# Altium schematic symbol library OpenRex_V1I1.SCHLIB: 164 symbols (part 2 of 5)
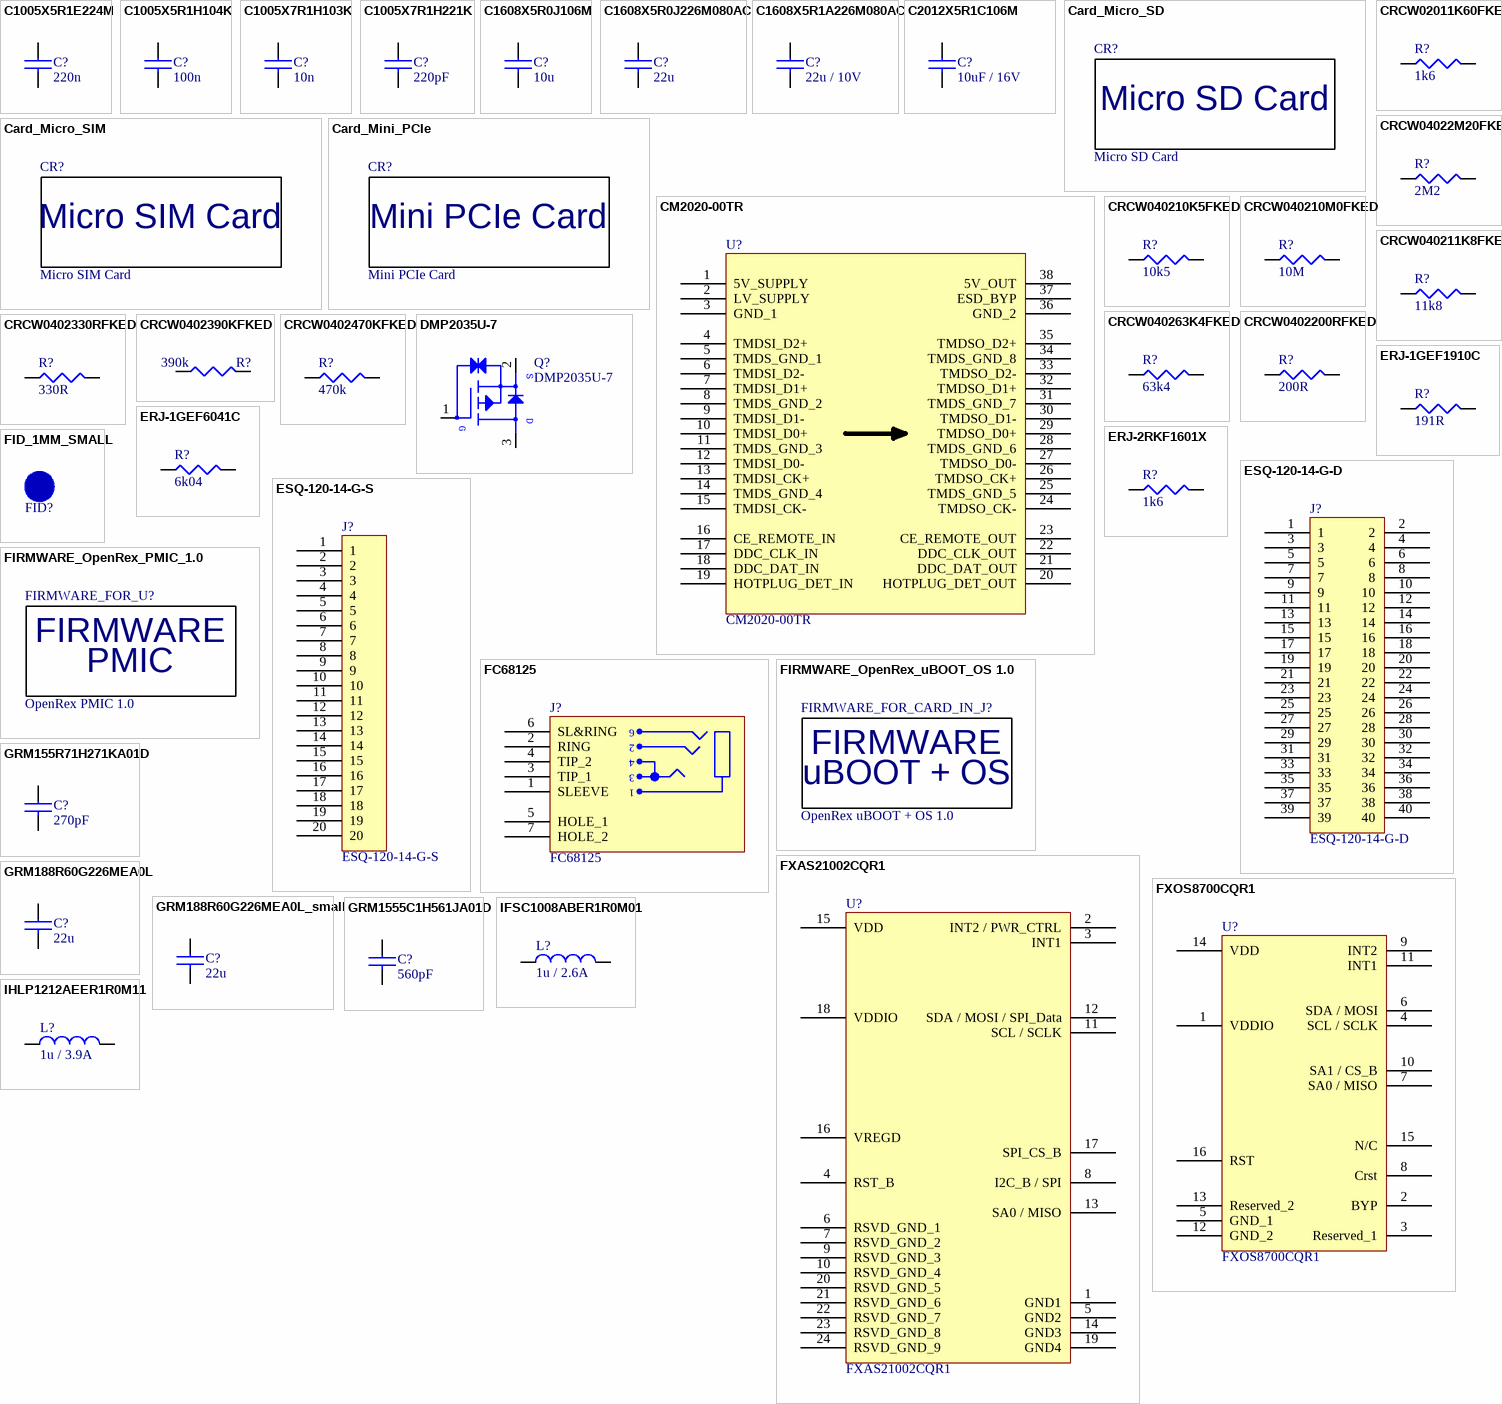
[diagram p17: symbols C1005X5R1E224M to IHLP1212AEER1R0M11]

## C1608X5R1A226M080AC
designator C?, comment 22u / 10V
CAP CER 22UF 10V X5R 0603; Manufacturer: TDK Corporation; Manufacturer Part Number: C1608X5R1A226M080AC; Capacitance: 22µF; Tolerance: ±20%; .Creator: MM; Supplier 1: Digi-Key; RoHS: RoHS Compliant; Category: Capacitors; Stock 1: 405620; Pricing 1: 1=0.49, 10=0.469, 100=0.2275, 250=0.189, 500=0.1715, 1000=0.1575 (USD); Packaging: Cut Tape (CT); Voltage - Rated: 10V; Temperature Coefficient: X5R; Mounting Type: Surface Mount, MLCC; Operating Temperature: -55°C ~ 85°C; Applications: General Purpose; Ratings: -; Package / Case: 0603 (1608 Metric); Size / Dimension: 0.063" L x 0.031" W (1.60mm x 0.80mm); Height - Seated (Max): -; Thickness (Max): 0.035" (0.90mm); Lead Spacing: -; Features: -; Lead Style: -; ComponentLink1URL: http://product.tdk.com/en/catalog/datasheets/mlcc_commercial_general_en.pdf; ComponentLink1Description: http://product.tdk.com/en/catalog/datasheets/mlcc_commercial_general_en.pdf; Supplier Part Number 1: 445-9077-1-ND; .Checked SCH: MM; .Checked PCB: MM
footprint C0603
pins: 1, 2

## C2012X5R1C106M
designator C?, comment 10uF / 16V
CAP CER 10UF 16V 20% X5R 0805; Manufacturer: TDK Corporation; Manufacturer Part Number: C2012X5R1C106M/1.25; Capacitance: 10µF; .Checked PCB: used; Supplier 1: Digi-Key; Supplier Part Number 1: 445-4115-1-ND; RoHS: RoHS Compliant; Category: Capacitors; Stock 1: 66161; Pricing 1: 1=0.45, 10=0.357, 100=0.215, 250=0.16124, 500=0.1376, 1000=0.1075 (USD); Voltage - Rated: 16V; Tolerance: ±20%; Temperature Coefficient: X5R; Mounting Type: Surface Mount, MLCC; Operating Temperature: -55°C ~ 85°C; Applications: General Purpose; Ratings: -; Package / Case: 0805 (2012 Metric); Size / Dimension: 0.079" L x 0.049" W (2.00mm x 1.25mm); Height - Seated (Max): -; Thickness (Max): 0.039" (1.00mm); Lead Spacing: -; Features: -; Packaging: Cut Tape (CT); Lead Style: -; ComponentLink1URL: http://www.tdk.com/pdf/general_B11.pdf; ComponentLink1Description: http://www.tdk.com/pdf/general_B11.pdf; .Checked SCH: used
footprint C0805
pins: 1, 2

## Card_Micro_SD
designator CR?, comment Micro SD Card  (no BOM)
Card Micro SD; .Creator: MM; Category: Card
footprint Micro_SD_card (.Creator MM)

## Card_Micro_SIM
designator CR?, comment Micro SIM Card  (no BOM)
Card Micro SIM; .Creator: MM; Category: Card
footprint Micro_Sim_card (Creator MM)

## Card_Mini_PCIe
designator CR?, comment Mini PCIe Card  (no BOM)
Card MIni PCIe; .Creator: MM; Category: Card
footprint Mini_PCIe_full card (.Creator MM)

## CM2020-00TR
designator U?
IC HDMI TX PORT P/I 38-TSSOP; Manufacturer: ON Semiconductor; .Creator: MM; .Checked PCB: used; Supplier 1: Digi-Key; Manufacturer Part Number: CM2020-00TR; RoHS: RoHS Compliant; Category: Integrated Circuits (ICs); Stock 1: 7580; Pricing 1: 1=1.52, 10=1.34, 25=1.2096, 100=1.0584, 250=0.9282, 500=0.8232, 1000=0.651 (USD); Packaging: Cut Tape (CT); Type: HDMI Transmitter; Applications: Consumer Electronics, DVD-RW Players, Set Top Box; Mounting Type: Surface Mount; Package / Case: 38-TFSOP (0.173", 4.40mm Width) Exposed Pad; Supplier Device Package: 38-TSSOP; ComponentLink1URL: http://www.onsemi.com/pub_link/Collateral/CM2020-00TR-D.PDF; ComponentLink1Description: http://www.onsemi.com/pub_link/Collateral/CM2020-00TR-D.PDF; Supplier Part Number 1: CM2020-00TROSCT-ND; .Checked SCH: used
footprint TSSOP_38
pins: 1 5V_SUPPLY, 2 LV_SUPPLY, 3 GND_1, 4 TMDSI_D2+, 5 TMDS_GND_1, 6 TMDSI_D2-, 7 TMDSI_D1+, 8 TMDS_GND_2, 9 TMDSI_D1-, 10 TMDSI_D0+, 11 TMDS_GND_3, 12 TMDSI_D0-, 13 TMDSI_CK+, 14 TMDS_GND_4, 15 TMDSI_CK-, 16 CE_REMOTE_IN, 17 DDC_CLK_IN, 18 DDC_DAT_IN, 19 HOTPLUG_DET_IN, 20 HOTPLUG_DET_OUT, 21 DDC_DAT_OUT, 22 DDC_CLK_OUT, 23 CE_REMOTE_OUT, 24 TMDSO_CK-, 25 TMDS_GND_5, 26 TMDSO_CK+, 27 TMDSO_D0-, 28 TMDS_GND_6, 29 TMDSO_D0+, 30 TMDSO_D1-, 31 TMDS_GND_7, 32 TMDSO_D1+, 33 TMDSO_D2-, 34 TMDS_GND_8, 35 TMDSO_D2+, 36 GND_2, 37 ESD_BYP, 38 5V_OUT

## CRCW02011K60FKED
designator R?, comment 1k6
RES 1.60K OHM 1/20W 1% 0201 SMD; Manufacturer: Vishay Dale; Manufacturer Part Number: CRCW02011K60FKED; Resistance (Ohms): 1.6k; Power (Watts): 0.05W, 1/20W; Temperature Coefficient: ±100ppm/°C; .Creator: MM; Supplier 1: Digi-Key; RoHS: RoHS Compliant; Category: Resistors; Stock 1: 31501; Pricing 1: 1=0.26, 10=0.218, 25=0.1584, 50=0.1148, 100=0.0851, 250=0.06536, 500=0.05148, 1000=0.03564, 2500=0.03267 (USD); Packaging: Cut Tape (CT); Tolerance: ±1%; Composition: Thick Film; Features: -; Package / Case: 0201 (0603 Metric); Supplier Device Package: 0201 (0603 Metric); Size / Dimension: 0.024" L x 0.012" W (0.60mm x 0.30mm); Height: 0.011" (0.28mm); Number of Terminations: 2; ComponentLink1URL: http://www.vishay.com/docs/20052/crcw0201e3.pdf; ComponentLink1Description: http://www.vishay.com/docs/20052/crcw0201e3.pdf; Supplier Part Number 1: 541-1.60KAABCT-ND; .Checked PCB: MM; .Checked SCH: MM
footprint R0201 (Creator MM)
pins: 1, 2

## CRCW04022M20FKED
designator R?, comment 2M2
RES 2.20M OHM 1/16W 1% 0402 SMD; Manufacturer: Vishay Dale; Manufacturer Part Number: CRCW04022M20FKED; Resistance (Ohms): 2.2M; Power (Watts): 0.063W, 1/16W; Temperature Coefficient: ±100ppm/°C; .Creator: MM; .Checked PCB: used; Supplier 1: Digi-Key; RoHS: RoHS Compliant; Category: Resistors; Stock 1: 77953; Pricing 1: 10=0.083, 50=0.0444, 200=0.0255, 1000=0.0174 (USD); Composition: Thick Film; Features: Automotive AEC-Q200 Qualified; Tolerance: ±1%; Package / Case: 0402 (1005 Metric); Supplier Device Package: 0402 (1005 Metric); Size / Dimension: 0.039" L x 0.020" W (1.00mm x 0.50mm); Height: 0.016" (0.40mm); Number of Terminations: 2; Packaging: Cut Tape (CT); ComponentLink1URL: http://www.vishay.com/doc?20035; ComponentLink1Description: http://www.vishay.com/doc?20035; Supplier Part Number 1: 541-2.20MLCT-ND; .Checked SCH: used
footprint R0402
pins: 1, 2

## CRCW040210K5FKED
designator R?, comment 10k5
RES 10.5K OHM 1/16W 1% 0402 SMD; Manufacturer: Vishay/Dale; Manufacturer Part Number: CRCW040210K5FKED; Power (Watts): 0.063W, 1/16W; .Checked PCB: used; Temperature Coefficient: ±100ppm/°C; Category: Resistors; Supplier Part Number: 541-10.5KLCT-ND; Package / Case: 0402 (1005 Metric); Price 1k [$]: 0.01740; Resistance (Ohms): 10.5K; Tolerance: ±1%; Value: 10k5; .Checked SCH: used; Supplier: Digikey; Supplier 1: Digi-Key; Supplier Part Number 1: 541-10.5KLCT-ND; RoHS: RoHS Compliant; Stock 1: 36157; Pricing 1: 10=0.083, 50=0.0444, 200=0.0255, 1000=0.0174 (USD); Composition: Thick Film; Features: -; Size / Dimension: 0.039" L x 0.020" W (1.00mm x 0.50mm); Height: 0.016" (0.40mm); Number of Terminations: 2; Packaging: Cut Tape (CT); ComponentLink1URL: http://www.vishay.com/doc?20035; ComponentLink1Description: http://www.vishay.com/doc?20035
footprint R0402
pins: 1, 2

## CRCW040210M0FKED
designator R?, comment 10M
RES 10.0M OHM 1/16W 1% 0402 SMD; Manufacturer: Vishay Dale; Manufacturer Part Number: CRCW040210M0FKED; Power (Watts): 0.063W, 1/16W; Temperature Coefficient: ±100ppm/°C; .Checked PCB: RF; Supplier 1: Digi-Key; Supplier Part Number 1: 541-10.0MLCT-ND; RoHS: RoHS Compliant; Category: Resistors; Stock 1: 182279; Pricing 1: 10=0.083, 50=0.0444, 200=0.0255, 1000=0.0174 (USD); Resistance (Ohms): 10M; Composition: Thick Film; Features: -; Tolerance: ±1%; Package / Case: 0402 (1005 Metric); Size / Dimension: 0.039" L x 0.020" W (1.00mm x 0.50mm); Height: 0.016" (0.40mm); Number of Terminations: 2; Packaging: Cut Tape (CT); ComponentLink1URL: http://www.vishay.com/doc?20035; ComponentLink1Description: http://www.vishay.com/doc?20035; .Checked SCH: RF
footprint R0402
pins: 1, 2

## CRCW040211K8FKED
designator R?, comment 11k8
RES 11.8K OHM 1/16W 1% 0402 SMD; Manufacturer: Vishay Dale; Manufacturer Part Number: CRCW040211K8FKED; Power (Watts): 0.063W, 1/16W; Temperature Coefficient: ±100ppm/°C; .Checked PCB: RF; Supplier 1: Digi-Key; Supplier Part Number 1: 541-11.8KLCT-ND; RoHS: RoHS Compliant; Category: Resistors; Stock 1: 30358; Pricing 1: 10=0.083, 50=0.0444, 200=0.0255, 1000=0.0174 (USD); Resistance (Ohms): 11.8K; Composition: Thick Film; Features: -; Tolerance: ±1%; Package / Case: 0402 (1005 Metric); Size / Dimension: 0.039" L x 0.020" W (1.00mm x 0.50mm); Height: 0.016" (0.40mm); Number of Terminations: 2; Packaging: Cut Tape (CT); ComponentLink1URL: http://www.vishay.com/doc?20035; ComponentLink1Description: http://www.vishay.com/doc?20035; .Checked SCH: RF
footprint R0402
pins: 1, 2

## CRCW040263K4FKED
designator R?, comment 63k4
RES SMD 63.4K OHM 1% 1/16W 0402; Manufacturer: Vishay Dale; Manufacturer Part Number: CRCW040263K4FKED; Power (Watts): 0.063W, 1/16W; Temperature Coefficient: ±100ppm/°C; .Checked PCB: MM; Supplier 1: Digi-Key; RoHS: RoHS Compliant; Category: Resistors; Stock 1: 43534; Pricing 1: 10=0.083, 50=0.0444, 200=0.0255, 1000=0.0174 (USD); Packaging: Cut Tape (CT); Resistance (Ohms): 63.4k; Tolerance: ±1%; Composition: Thick Film; Features: Automotive AEC-Q200; Operating Temperature: -55°C ~ 155°C; Package / Case: 0402 (1005 Metric); Supplier Device Package: 0402 (1005 Metric); Size / Dimension: 0.039" L x 0.020" W (1.00mm x 0.50mm); Height: 0.016" (0.40mm); Number of Terminations: 2; ComponentLink1URL: http://www.vishay.com/docs/20035/dcrcwe3.pdf; ComponentLink1Description: http://www.vishay.com/docs/20035/dcrcwe3.pdf; Supplier Part Number 1: 541-63.4KLCT-ND; .Checked SCH: MM; .Creator: MM
footprint R0402
pins: 1, 2

## CRCW0402200RFKED
designator R?, comment 200R
RES 200 OHM 1/16W 1% 0402 SMD; Manufacturer: Vishay Dale; Manufacturer Part Number: CRCW0402200RFKED; Resistance (Ohms): 200; Power (Watts): 0.063W, 1/16W; Temperature Coefficient: ±100ppm/°C; .Checked PCB: used; .Creator: MM; Supplier 1: Digi-Key; RoHS: RoHS Compliant; Category: Resistors; Stock 1: 251574; Pricing 1: 10=0.083, 50=0.0444, 200=0.0255, 1000=0.0174 (USD); Composition: Thick Film; Features: Automotive AEC-Q200 Qualified; Tolerance: ±1%; Package / Case: 0402 (1005 Metric); Supplier Device Package: 0402 (1005 Metric); Size / Dimension: 0.039" L x 0.020" W (1.00mm x 0.50mm); Height: 0.016" (0.40mm); Number of Terminations: 2; Packaging: Cut Tape (CT); ComponentLink1URL: http://www.vishay.com/doc?20035; ComponentLink1Description: http://www.vishay.com/doc?20035; Supplier Part Number 1: 541-200LCT-ND; .Checked SCH: used
footprint R0402
pins: 1, 2

## CRCW0402330RFKED
designator R?, comment 330R
RES 330 OHM 1/16W 1% 0402 SMD; Manufacturer: Vishay Dale; Manufacturer Part Number: CRCW0402330RFKED; Resistance (Ohms): 330; Power (Watts): 0.063W, 1/16W; Temperature Coefficient: ±100ppm/°C; .Checked PCB: used; Supplier 1: Digi-Key; Supplier Part Number 1: 541-330LCT-ND; RoHS: RoHS Compliant; Category: Resistors; Stock 1: 49303; Pricing 1: 10=0.083, 50=0.0444, 200=0.0255, 1000=0.0174 (USD); Composition: Thick Film; Features: -; Tolerance: ±1%; Package / Case: 0402 (1005 Metric); Size / Dimension: 0.039" L x 0.020" W (1.00mm x 0.50mm); Height: 0.016" (0.40mm); Number of Terminations: 2; Packaging: Cut Tape (CT); ComponentLink1URL: http://www.vishay.com/doc?20035; ComponentLink1Description: http://www.vishay.com/doc?20035; .Checked SCH: used
footprint R0402
pins: 1, 2

## CRCW0402390KFKED
designator R?, comment 390k
RES 390K OHM 1/16W 1% 0402 SMD; Manufacturer: Vishay Dale; Manufacturer Part Number: CRCW0402390KFKED; Power (Watts): 0.063W, 1/16W; Temperature Coefficient: ±100ppm/°C; .Creator: MM; .Checked SCH: used; Supplier 1: Digi-Key; RoHS: RoHS Compliant; Category: Resistors; Stock 1: 288225; Pricing 1: 10=0.083, 50=0.0444, 200=0.0255, 1000=0.0174 (USD); Packaging: Cut Tape (CT); Resistance (Ohms): 390k; Tolerance: ±1%; Composition: Thick Film; Features: Automotive AEC-Q200 Qualified; Package / Case: 0402 (1005 Metric); Supplier Device Package: 0402 (1005 Metric); Size / Dimension: 0.039" L x 0.020" W (1.00mm x 0.50mm); Height: 0.016" (0.40mm); Number of Terminations: 2; ComponentLink1URL: http://www.vishay.com/docs/20035/dcrcwe3.pdf; ComponentLink1Description: http://www.vishay.com/docs/20035/dcrcwe3.pdf; Supplier Part Number 1: 541-390KLCT-ND; .Checked PCB: used
footprint R0402
pins: 1, 2

## CRCW0402470KFKED
designator R?, comment 470k
RES 470K OHM 1/16W 1% 0402 SMD; Manufacturer: Vishay Dale; Manufacturer Part Number: CRCW0402470KFKED; Power (Watts): 0.063W, 1/16W; Temperature Coefficient: ±100ppm/°C; .Checked PCB: MM; Supplier 1: Digi-Key; Supplier Part Number 1: 541-470KLCT-ND; RoHS: RoHS Compliant; Category: Resistors; Stock 1: 9270; Pricing 1: 10=0.083, 50=0.0444, 200=0.0255, 1000=0.0174 (USD); Resistance (Ohms): 470K; Composition: Thick Film; Features: -; Tolerance: ±1%; Size / Dimension: 0.039" L x 0.020" W (1.00mm x 0.50mm); Height: 0.016" (0.40mm); Number of Terminations: 2; Packaging: Cut Tape (CT); Package / Case: 0402 (1005 Metric); ComponentLink1URL: http://www.vishay.com/doc?20035; ComponentLink1Description: http://www.vishay.com/doc?20035; .Checked SCH: MM
footprint R0402
pins: 1, 2

## DMP2035U-7
designator Q?
MOSFET P-CH 20V 3.6A SOT-23; Manufacturer: Diodes Incorporated; FET Type: MOSFET P-Channel, Metal Oxide; FET Feature: Logic Level Gate; Current - Continuous Drain (Id) @ 25°C: 3.6A (Ta); Rds On (Max) @ Id, Vgs: 35 mOhm @ 4A, 4.5V; Vgs(th) (Max) @ Id: 1V @ 250µA; Gate Charge (Qg) @ Vgs: 15.4nC @ 4.5V; Input Capacitance (Ciss) @ Vds: 1610pF @ 10V; Power - Max: 810mW; .Checked PCB: MM; Supplier 1: Digi-Key; Manufacturer Part Number: DMP2035U-7; RoHS: RoHS Compliant; Category: Discrete Semiconductor Products; Stock 1: 71721; Pricing 1: 1=0.49, 10=0.345, 25=0.2836, 100=0.2265, 250=0.165, 500=0.134, 1000=0.103 (USD); Packaging: Cut Tape (CT); Drain to Source Voltage (Vdss): 20V; Mounting Type: Surface Mount; Package / Case: TO-236-3, SC-59, SOT-23-3; Supplier Device Package: SOT-23-3; ComponentLink1URL: http://www.diodes.com/datasheets/ds31830.pdf; ComponentLink1Description: http://www.diodes.com/datasheets/ds31830.pdf; Supplier Part Number 1: DMP2035U-7DICT-ND; .Checked SCH: MM; .Creator: MM
footprint SOT-23-3-123
pins: 1, 2, 3
text: S; D; G

## ERJ-1GEF1910C
designator R?, comment 191R
RES 191 OHM 1/20W 1% 0201 SMD; Manufacturer: Panasonic Electronic Components; Manufacturer Part Number: ERJ-1GEF1910C; Resistance (Ohms): 191; Power (Watts): 0.05W, 1/20W; Temperature Coefficient: ±200ppm/°C; .Creator: MM; Supplier 1: Digi-Key; RoHS: RoHS Compliant; Category: Resistors; Stock 1: 34157; Pricing 1: 1=0.11, 50=0.0414, 100=0.0315, 250=0.0234, 500=0.01728, 1000=0.01152, 5000=0.0081 (USD); Packaging: Cut Tape (CT); Tolerance: ±1%; Composition: Thick Film; Features: -; Package / Case: 0201 (0603 Metric); Supplier Device Package: 0201; Size / Dimension: 0.024" L x 0.012" W (0.60mm x 0.30mm); Height: 0.010" (0.26mm); Number of Terminations: 2; ComponentLink1URL: http://media.digikey.com/pdf/Data%20Sheets/Panasonic%20Resistors%20Thermistors%20PDFs/ERJ_G,R,E_Rev08.pdf; ComponentLink1Description: http://media.digikey.com/pdf/Data%20Sheets/Panasonic%20Resistors%20Thermistors%20PDFs/ERJ_G,R,E_Rev08.pdf; Supplier Part Number 1: P191ABCT-ND; .Checked PCB: MM; .Checked SCH: MM
footprint R0201 (Creator MM)
pins: 1, 2

## ERJ-1GEF6041C
designator R?, comment 6k04
RES 6.04K OHM 1/20W 1% 0201 SMD; Manufacturer: Panasonic Electronic Components; Manufacturer Part Number: ERJ-1GEF6041C; Power (Watts): 0.05W, 1/20W; Temperature Coefficient: ±200ppm/°C; .Creator: MM; Supplier 1: Digi-Key; RoHS: RoHS Compliant; Category: Resistors; Stock 1: 78155; Pricing 1: 1=0.11, 50=0.0414, 100=0.0315, 250=0.0234, 500=0.01728, 1000=0.01152, 5000=0.0081 (USD); Packaging: Cut Tape (CT); Resistance (Ohms): 6.04k; Tolerance: ±1%; Composition: Thick Film; Features: -; Package / Case: 0201 (0603 Metric); Supplier Device Package: 0201; Size / Dimension: 0.024" L x 0.012" W (0.60mm x 0.30mm); Height: 0.010" (0.26mm); Number of Terminations: 2; ComponentLink1URL: http://media.digikey.com/pdf/Data%20Sheets/Panasonic%20Resistors%20Thermistors%20PDFs/ERJ_G,R,E_Rev08.pdf; ComponentLink1Description: http://media.digikey.com/pdf/Data%20Sheets/Panasonic%20Resistors%20Thermistors%20PDFs/ERJ_G,R,E_Rev08.pdf; Supplier Part Number 1: P6.04KABCT-ND; .Checked PCB: MM; .Checked SCH: MM
footprint R0201 (Creator MM)
pins: 1, 2

## ERJ-2RKF1601X
designator R?, comment 1k6
RES 1.6K OHM 1/10W 1% 0402 SMD; Manufacturer: Panasonic Electronic Components; Manufacturer Part Number: ERJ-2RKF1601X; Power (Watts): 0.1W, 1/10W; Temperature Coefficient: ±100ppm/°C; .Creator: MM; .Checked PCB: used; Supplier 1: Digi-Key; RoHS: RoHS Compliant; Category: Resistors; Stock 1: 89488; Pricing 1: 1=0.1, 50=0.0242, 100=0.0184, 250=0.01364, 500=0.01008, 1000=0.00672, 5000=0.00473 (USD); Resistance (Ohms): 1.6k; Composition: Thick Film; Features: -; Tolerance: ±1%; Package / Case: 0402 (1005 Metric); Supplier Device Package: 0402; Size / Dimension: 0.039" L x 0.020" W (1.00mm x 0.50mm); Height: 0.016" (0.40mm); Number of Terminations: 2; Packaging: Cut Tape (CT); ComponentLink1URL: http://industrial.panasonic.com/www-cgi/jvcr13pz.cgi?E+PZ+3+AOA0002+ERJ2RKF1601X+7+WW; ComponentLink1Description: http://industrial.panasonic.com/www-cgi/jvcr13pz.cgi?E+PZ+3+AOA0002+ERJ2RKF1601X+7+WW; Supplier Part Number 1: P1.60KLCT-ND; .Checked SCH: used
footprint R0402
pins: 1, 2

## ESQ-120-14-G-D
designator J?
CONN RCPT 40POS .100" DUAL GOLD; Manufacturer: Samtec Inc.; Connector Type: Receptacle; Number of Positions: 40; Number of Positions Loaded: All; Pitch: 0.100" (2.54mm); .Creator: MM; Supplier 1: Digi-Key; Manufacturer Part Number: ESQ-120-14-G-D; RoHS: RoHS Compliant; Category: Connectors, Interconnects; Stock 1: 51; Pricing 1: 1=7.42, 10=6.864, 50=6.1586, 100=5.7505, 250=5.00852, 500=4.823, 1000=4.6375, 2500=4.452 (USD); Packaging: Tube; Contact Type: Female Socket; Number of Rows: 2; Row Spacing: 0.100" (2.54mm); Mounting Type: Through Hole; Termination: Solder; Fastening Type: -; Features: -; Contact Finish: Gold; Contact Finish Thickness: 20µin (0.51µm); Color: Black; ComponentLink1URL: http://suddendocs.samtec.com/prints/esq-1xx-xx-x-x-xxx-xx-x-xx-mkt.pdf; ComponentLink1Description: http://suddendocs.samtec.com/prints/esq-1xx-xx-x-x-xxx-xx-x-xx-mkt.pdf; Supplier Part Number 1: SAM8767-ND; .Checked PCB: MM; .Checked SCH: MM
footprint ESQ-120-14-G-D (Creator MM)
pins: 1, 2, 3, 4, 5, 6, 7, 8, 9, 10, 11, 12, 13, 14, 15, 16, 17, 18, 19, 20, 21, 22, 23, 24, 25, 26, 27, 28, 29, 30, 31, 32, 33, 34, 35, 36, 37, 38, 39, 40

## ESQ-120-14-G-S
designator J?
CONN RCPT 20POS .100" DUAL GOLD; Manufacturer: Samtec Inc.; Connector Type: Receptacle; Number of Positions: 20; Number of Positions Loaded: All; Pitch: 0.100" (2.54mm); .Creator: MM; .Checked PCB: MM, paper model not checked; Supplier 1: Digi-Key; Manufacturer Part Number: ESQ-120-14-G-S; RoHS: RoHS Compliant; Category: Connectors, Interconnects; Stock 1: 0; Pricing 1: 1=5.67 (USD); Packaging: Tube; Contact Type: Female Socket; Number of Rows: 1; Row Spacing: -; Mounting Type: Through Hole; Termination: Solder; Fastening Type: -; Features: -; Contact Finish: Gold; Contact Finish Thickness: 20µin (0.51µm); Color: Black; ComponentLink1URL: http://suddendocs.samtec.com/prints/esq-1xx-xx-x-x-xxx-xx-x-xx-mkt.pdf; ComponentLink1Description: http://suddendocs.samtec.com/prints/esq-1xx-xx-x-x-xxx-xx-x-xx-mkt.pdf; Supplier Part Number 1: ESQ-120-14-G-S-ND; .Checked SCH: MM
footprint ESQ-120-14-G-S (Creator MM)
pins: 1, 2, 3, 4, 5, 6, 7, 8, 9, 10, 11, 12, 13, 14, 15, 16, 17, 18, 19, 20

## FC68125
designator J?
CLIFF ELECTRONIC COMPONENTS - FC68125 - CONNECTOR, PHONO, 3.5MM, JACK, 4POLE; .Creator: MM; Supplier 1: Farnell; Manufacturer: CLIFF ELECTRONIC COMPONENTS; Manufacturer Part Number: FC68125; RoHS: YES; Stock 1: 5095; Pricing 1: 1=1.18, 10=0.652, 25=0.505, 50=0.433, 100=0.371, 500=0.316 (GBP); ComponentLink1URL: http://www.farnell.com/cad/1803251.pdf; ComponentLink1Description: http://www.farnell.com/cad/1803251.pdf; ComponentLink2URL: http://www.farnell.com/datasheets/1759063.pdf; ComponentLink2Description: http://www.farnell.com/datasheets/1759063.pdf; Supplier Part Number 1: 2309468; Category: Connectors, Interconnects; .Checked PCB: MM; .Checked SCH: MM
footprint FC68125
pins: 1 SLEEVE, 2 RING, 3 TIP_1, 4 TIP_2, 5 HOLE_1, 6 SL&RING, 7 HOLE_2

## FID_1MM_SMALL
designator FID?  (value not drawn)  (no BOM)
Fiducial 40mil Diameter, 52mil Mask; Supplier: Digikey
footprint FID_40X52D

## FIRMWARE_OpenRex_PMIC_1.0
designator FIRMWARE_FOR_U?, comment OpenRex PMIC 1.0  (mechanical)
.Creator: MM; Category: Firmware; .Checked SCH: MM
text: FIRMWARE; PMIC

## FIRMWARE_OpenRex_uBOOT_OS 1.0
designator FIRMWARE_FOR_CARD_IN_J?, comment OpenRex uBOOT + OS 1.0  (mechanical)
.Creator: MM; Category: Firmware; .Checked SCH: MM
text: FIRMWARE; uBOOT + OS

## FXAS21002CQR1
designator U?
GYROSCOPE 3-AXIS 24QFN; Manufacturer: Freescale Semiconductor; Range °/s: ±250°/s, ±500°/s, ±1000°/s, ±2000°/s; Sensitivity: 0.0078°/s/LSB, 0.0156°/s/LSB, 0.0312°/s/LSB, 0.0625°/s/LSB; Typical Bandwidth: 400Hz; Voltage - Supply: 1.95 V ~ 3.6 V; Current - Supply: 2.7mA; Output Type: I²C, SPI; .Checked PCB: MM; Supplier 1: Digi-Key; Manufacturer Part Number: FXAS21002CQR1; RoHS: RoHS Compliant; Category: Sensors, Transducers; Stock 1: 1703; Pricing 1: 1=3.56, 10=3.175, 25=2.9844, 100=2.8575, 250=2.73052, 500=2.54 (USD); Operating Temperature: -40°C ~ 85°C; Package / Case: 24-TFQFN Exposed Pad; Supplier Device Package: 24-QFN (4x4); ComponentLink1URL: http://cache.freescale.com/files/sensors/doc/data_sheet/FXAS21002.pdf; ComponentLink1Description: http://cache.freescale.com/files/sensors/doc/data_sheet/FXAS21002.pdf; Supplier Part Number 1: FXAS21002CQR1CT-ND; .Checked SCH: MM; .Creator: MM
footprint QFN24_4x4MM (Creator MM)
pins: 1 GND1, 2 INT2 / PWR_CTRL, 3 INT1, 4 RST_B, 5 GND2, 6 RSVD_GND_1, 7 RSVD_GND_2, 8 I2C_B / SPI, 9 RSVD_GND_3, 10 RSVD_GND_4, 11 SCL / SCLK, 12 SDA / MOSI / SPI_Data, 13 SA0 / MISO, 14 GND3, 15 VDD, 16 VREGD, 17 SPI_CS_B, 18 VDDIO, 19 GND4, 20 RSVD_GND_5, 21 RSVD_GND_6, 22 RSVD_GND_7, 23 RSVD_GND_8, 24 RSVD_GND_9

## FXOS8700CQR1
designator U?
SENSOR XTRINSIC 6-AXIS QFN; Manufacturer: Freescale Semiconductor; Sensor Type: Accelerometer, Magnetometer, 3 Axis; Output Type: I²C, SPI; .Checked PCB: MM; Supplier 1: Digi-Key; Manufacturer Part Number: FXOS8700CQR1; RoHS: RoHS Compliant; Category: Sensors, Transducers; Stock 1: 6201; Pricing 1: 1=2.63, 10=2.35, 25=2.2092, 100=2.115, 250=2.021, 500=1.88 (USD); ComponentLink1URL: http://cache.freescale.com/files/sensors/doc/data_sheet/FXOS8700CQ.pdf; ComponentLink1Description: http://cache.freescale.com/files/sensors/doc/data_sheet/FXOS8700CQ.pdf; Supplier Part Number 1: FXOS8700CQR1CT-ND; .Checked SCH: MM; .Creator: MM
footprint QFN16_3x3mm (Creator MM)
pins: 1 VDDIO, 2 BYP, 3 Reserved_1, 4 SCL / SCLK, 5 GND_1, 6 SDA / MOSI, 7 SA0 / MISO, 8 Crst, 9 INT2, 10 SA1 / CS_B, 11 INT1, 12 GND_2, 13 Reserved_2, 14 VDD, 15 N/C, 16 RST

## GRM155R71H271KA01D
designator C?, comment 270pF
CAP CER 270PF 50V 10% X7R 0402; Manufacturer: Murata Electronics North America; Manufacturer Part Number: GRM155R71H271KA01D; .Checked PCB: used; Supplier 1: Digi-Key; Supplier Part Number 1: 490-1299-1-ND; RoHS: RoHS Compliant; Category: Capacitors; Stock 1: 83894; Pricing 1: 10=0.032, 50=0.0252, 100=0.0189, 250=0.01364, 500=0.01008, 1000=0.00683, 5000=0.00525 (USD); Capacitance: 270pF; Voltage - Rated: 50V; Tolerance: ±10%; Temperature Coefficient: X7R; Mounting Type: Surface Mount, MLCC; Operating Temperature: -55°C ~ 125°C; Applications: General Purpose; Ratings: -; Package / Case: 0402 (1005 Metric); Size / Dimension: 0.039" L x 0.020" W (1.00mm x 0.50mm); Height - Seated (Max): -; Thickness (Max): 0.022" (0.55mm); Lead Spacing: -; Features: -; Packaging: Cut Tape (CT); Lead Style: -; ComponentLink1URL: http://search.murata.co.jp/Ceramy/image/img/PDF/ENG/GRM155R71H271KA01.pdf; ComponentLink1Description: http://search.murata.co.jp/Ceramy/image/img/PDF/ENG/GRM155R71H271KA01.pdf; .Checked SCH: used
footprint C0402
pins: 1, 2

## GRM188R60G226MEA0L
designator C?, comment 22u
CAP CER 22UF 4V 20% X5R 0603; Manufacturer: Murata Electronics North America; Manufacturer Part Number: GRM188R60G226MEA0L; Capacitance: 22µF; .Checked PCB: used; .Creator: MM; Supplier 1: Digi-Key; Supplier Part Number 1: 490-5526-1-ND; RoHS: RoHS Compliant; Category: Capacitors; Stock 1: 5760; Pricing 1: 1=0.79, 10=0.663, 50=0.4752, 100=0.4158, 250=0.32672, 500=0.297, 1000=0.2376 (USD); Voltage - Rated: 4V; Tolerance: ±20%; Temperature Coefficient: X5R; Mounting Type: Surface Mount, MLCC; Operating Temperature: -55°C ~ 85°C; Applications: General Purpose; Ratings: -; Package / Case: 0603 (1608 Metric); Size / Dimension: 0.063" L x 0.031" W (1.60mm x 0.80mm); Height - Seated (Max): -; Thickness (Max): 0.035" (0.90mm); Lead Spacing: -; Features: -; Packaging: Cut Tape (CT); Lead Style: -; ComponentLink1URL: http://www.murata.com/products/catalog/pdf/c02e.pdf; ComponentLink1Description: http://www.murata.com/products/catalog/pdf/c02e.pdf; .Checked SCH: used
footprint C0603
pins: 1, 2

## GRM188R60G226MEA0L_small
designator C?, comment 22u
CAP CER 22UF 4V 20% X5R 0603; Manufacturer: Murata Electronics North America; Manufacturer Part Number: GRM188R60G226MEA0L; Capacitance: 22µF; .Checked PCB: MM; .Checked SCH: RF, used by MM; Supplier 1: Digi-Key; Supplier Part Number 1: 490-5526-1-ND; RoHS: RoHS Compliant; Category: Capacitors; Stock 1: 5760; Pricing 1: 1=0.79, 10=0.663, 50=0.4752, 100=0.4158, 250=0.32672, 500=0.297, 1000=0.2376 (USD); Voltage - Rated: 4V; Tolerance: ±20%; Temperature Coefficient: X5R; Mounting Type: Surface Mount, MLCC; Operating Temperature: -55°C ~ 85°C; Applications: General Purpose; Ratings: -; Package / Case: 0603 (1608 Metric); Size / Dimension: 0.063" L x 0.031" W (1.60mm x 0.80mm); Height - Seated (Max): -; Thickness (Max): 0.035" (0.90mm); Lead Spacing: -; Features: -; Packaging: Cut Tape (CT); Lead Style: -; ComponentLink1URL: http://www.murata.com/products/catalog/pdf/c02e.pdf; ComponentLink1Description: http://www.murata.com/products/catalog/pdf/c02e.pdf; .Creator: MM
footprint C0603_small (Creator MM)
pins: 1, 2

## GRM1555C1H561JA01D
designator C?, comment 560pF
CAP CER 560PF 50V C0G 0402; Manufacturer: Murata Electronics North America; Manufacturer Part Number: GRM1555C1H561JA01D; .Checked PCB: used; Tolerance: ±5%; Temperature Coefficient: C0G, NP0; Capacitance: 560pF; Category: Capacitors; Supplier Part Number: 490-3238-1-ND; Operating Temperature: -55°C ~ 125°C; Package / Case: 0402 (1005 Metric); Price 1k [$]: 0.0149; Value: 560pF; .Checked SCH: used; Voltage - Rated: 50V; Supplier: Digikey; Supplier 1: Digi-Key; Supplier Part Number 1: 490-3238-1-ND; RoHS: RoHS Compliant; Stock 1: 301161; Pricing 1: 10=0.066, 50=0.0528, 100=0.0396, 250=0.0286, 500=0.02112, 1000=0.0143, 5000=0.011 (USD); Mounting Type: Surface Mount, MLCC; Applications: General Purpose; Ratings: -; Size / Dimension: 0.039" L x 0.020" W (1.00mm x 0.50mm); Height - Seated (Max): -; Thickness (Max): 0.022" (0.55mm); Lead Spacing: -; Features: -; Packaging: Cut Tape (CT); Lead Style: -; ComponentLink1URL: http://search.murata.co.jp/Ceramy/image/img/PDF/ENG/GRM1555C1H561JA01.pdf; ComponentLink1Description: http://search.murata.co.jp/Ceramy/image/img/PDF/ENG/GRM1555C1H561JA01.pdf
footprint C0402
pins: 1, 2

## IFSC1008ABER1R0M01
designator L?, comment 1u / 2.6A
FIXED IND 1UH 2.6A 43 MOHM SMD; Manufacturer: Vishay Dale; Manufacturer Part Number: IFSC1008ABER1R0M01; Inductance: 1µH; Tolerance: ±20%; Current - Saturation: 2.7A; Shielding: Shielded; DC Resistance (DCR): 43 mOhm Max; Frequency - Test: 100kHz; .Creator: MM; Supplier 1: Digi-Key; RoHS: RoHS Compliant; Category: Inductors, Coils, Chokes; Stock 1: 46148; Pricing 1: 1=0.62, 10=0.501, 100=0.4175, 500=0.334, 1000=0.3006 (USD); Packaging: Cut Tape (CT); Type: -; Material - Core: -; Current Rating: 2.6A; Q @ Freq: -; Frequency - Self Resonant: -; Operating Temperature: -55°C ~ 125°C; Mounting Type: Surface Mount; Package / Case: Nonstandard; Size / Dimension: 0.098" L x 0.079" W (2.50mm x 2.00mm); Height - Seated (Max): 0.047" (1.20mm); Supplier Device Package: -; ComponentLink1URL: http://www.vishay.com/docs/34294/s108ab01.pdf; ComponentLink1Description: http://www.vishay.com/docs/34294/s108ab01.pdf; Supplier Part Number 1: 541-1388-1-ND; .Checked PCB: MM; .Checked SCH: MM
footprint IFSC_79MILX98MIL (Creator MM)
pins: 1, 2

## IHLP1212AEER1R0M11
designator L?, comment 1u / 3.9A
FIXED IND 1UH 3.9A 33 MOHM SMD; Manufacturer: Vishay Dale; Manufacturer Part Number: IHLP1212AEER1R0M11; Type: Molded; Inductance: 1µH; Tolerance: ±20%; Current - Saturation: 5.3A; Shielding: Shielded; DC Resistance (DCR): 33 mOhm Max; Frequency - Test: 100kHz; .Creator: MM; Supplier 1: Digi-Key; RoHS: RoHS Compliant; Category: Inductors, Coils, Chokes; Stock 1: 3480; Pricing 1: 1=1.44, 10=1.35, 100=1.026, 500=0.828, 1000=0.756 (USD); Packaging: Cut Tape (CT); Material - Core: -; Current Rating: 3.9A; Q @ Freq: -; Frequency - Self Resonant: -; Operating Temperature: -55°C ~ 125°C; Mounting Type: Surface Mount; Package / Case: Nonstandard; Size / Dimension: 0.144" L x 0.118" W (3.65mm x 3.00mm); Height - Seated (Max): 0.047" (1.20mm); Supplier Device Package: -; ComponentLink1URL: http://www.vishay.com/docs/34300/lp12ae11.pdf; ComponentLink1Description: http://www.vishay.com/docs/34300/lp12ae11.pdf; Supplier Part Number 1: 541-1327-1-ND; .Checked PCB: MM; .Checked SCH: MM
footprint IHLP_118MILX144MIL (Creator MM)
pins: 1, 2

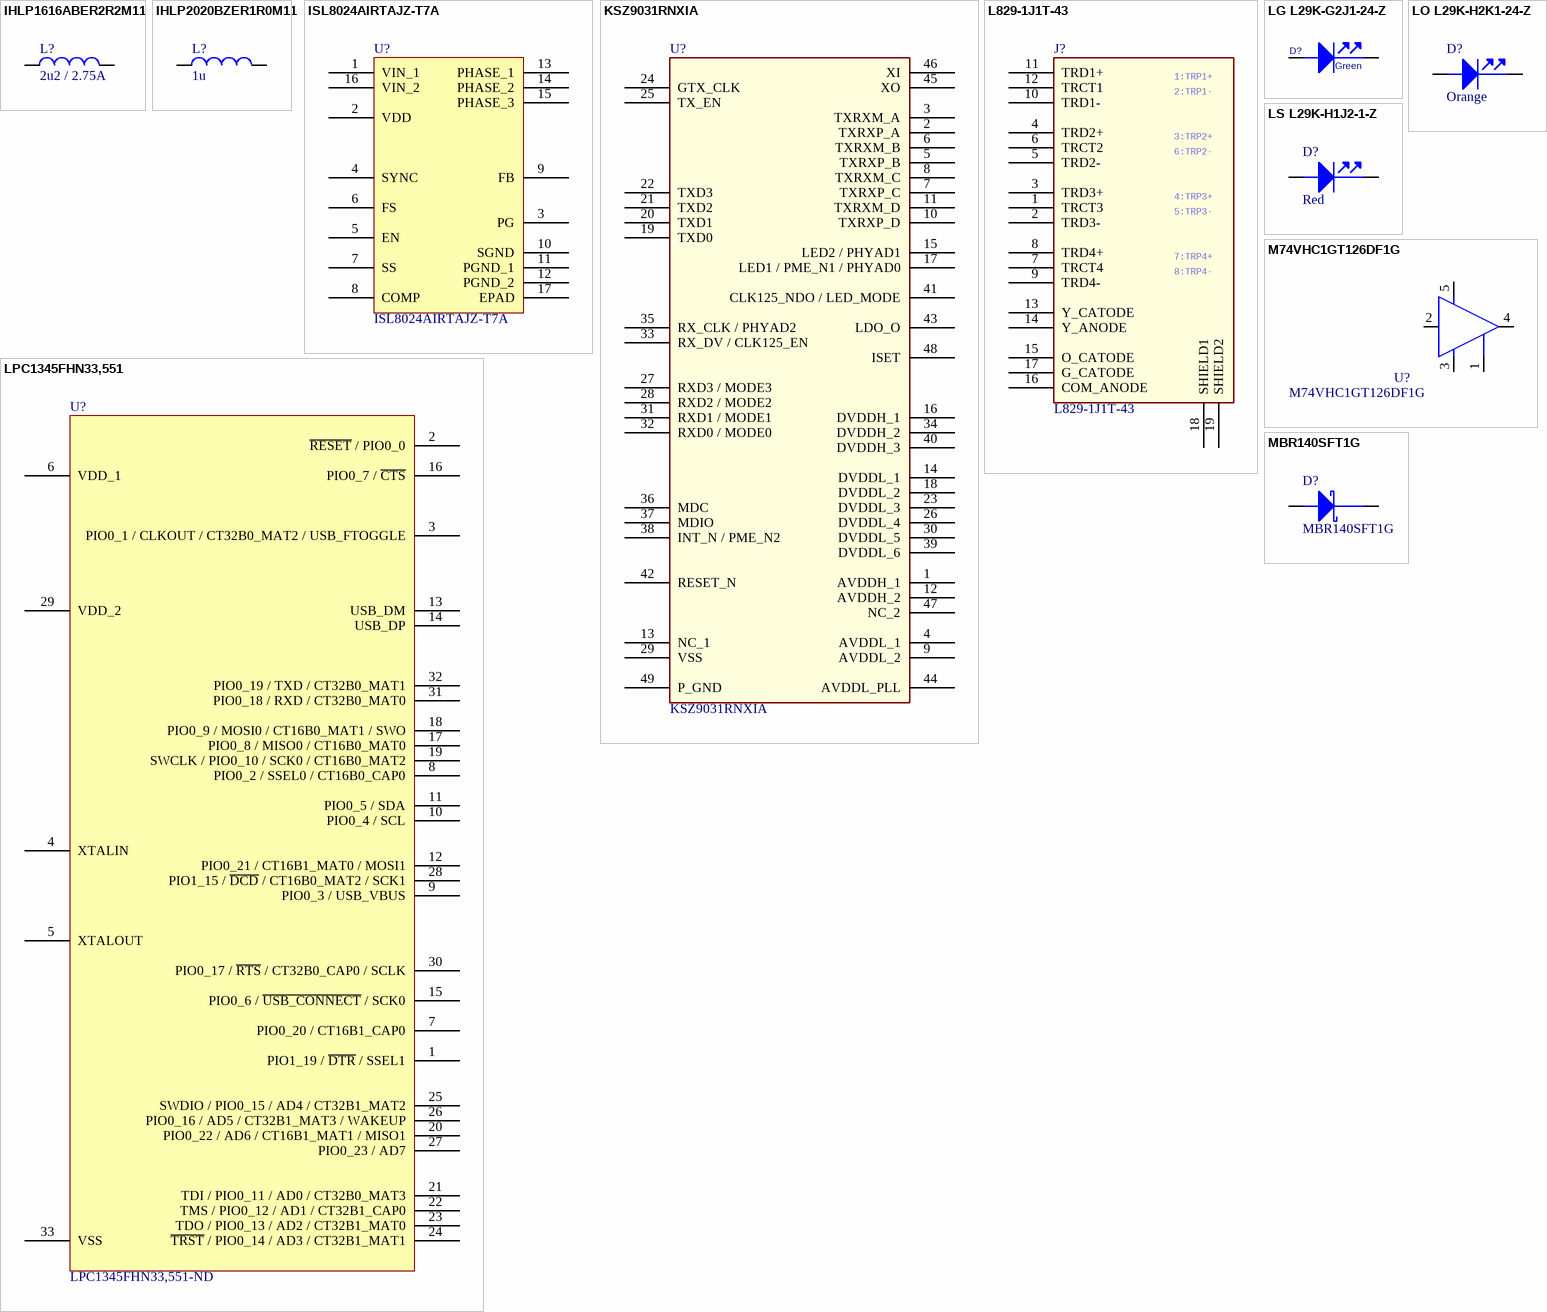
[diagram p2: symbols IHLP1616ABER2R2M11 to MBR140SFT1G]

## IHLP1616ABER2R2M11
designator L?, comment 2u2 / 2.75A
FIXED IND 2.2UH 2.75A 83.5 MOHM; Manufacturer: Vishay Dale; Manufacturer Part Number: IHLP1616ABER2R2M11; Type: Molded; Inductance: 2.2µH; Tolerance: ±20%; Current - Saturation: 3A; Shielding: Shielded; DC Resistance (DCR): 83.5 mOhm Max; Frequency - Self Resonant: 49MHz; Frequency - Test: 100kHz; .Creator: MM; Supplier 1: Digi-Key; RoHS: RoHS Compliant; Category: Inductors, Coils, Chokes; Stock 1: 11070; Pricing 1: 1=2.63, 10=2.45, 100=1.82, 500=1.54, 1000=1.435 (USD); Packaging: Cut Tape (CT); Material - Core: -; Current Rating: 2.75A; Q @ Freq: -; Operating Temperature: -55°C ~ 125°C; Mounting Type: Surface Mount; Package / Case: Nonstandard; Size / Dimension: 0.175" L x 0.160" W (4.45mm x 4.06mm); Height - Seated (Max): 0.047" (1.20mm); Supplier Device Package: -; ComponentLink1URL: http://media.digikey.com/pdf/Data%20Sheets/Vishay%20Dale%20PDFs/IHLP-1616-11.pdf; ComponentLink1Description: http://media.digikey.com/pdf/Data%20Sheets/Vishay%20Dale%20PDFs/IHLP-1616-11.pdf; Supplier Part Number 1: 541-1045-1-ND; .Checked PCB: MM; .Checked SCH: MM
footprint IHLP_160MILX175MIL (Creator MM)
pins: 1, 2

## IHLP2020BZER1R0M11
designator L?, comment 1u
INDUCTOR POWER 1.0UH 7.5A SMD; Manufacturer: Vishay Dale; Manufacturer Part Number: IHLP2020BZER1R0M11; Type: Molded; Inductance: 1µH; Tolerance: ±20%; Current - Saturation: 7A; Shielding: Shielded; DC Resistance (DCR): 18.1 mOhm Max; Frequency - Self Resonant: 66MHz; Frequency - Test: 100kHz; .Checked PCB: MM; Supplier 1: Digi-Key; RoHS: RoHS Compliant; Category: Inductors, Coils, Chokes; Stock 1: 8442; Pricing 1: 1=2.4, 10=2.24, 100=1.664, 500=1.408, 1000=1.312 (USD); Packaging: Cut Tape (CT); Material - Core: -; Current Rating: 7.5A; Q @ Freq: -; Operating Temperature: -55°C ~ 125°C; Mounting Type: Surface Mount; Package / Case: Non Standard; Size / Dimension: 0.216" L x 0.204" W (5.49mm x 5.18mm); Height - Seated (Max): 0.079" (2.00mm); Supplier Device Package: -; ComponentLink1URL: http://www.vishay.com/docs/34261/lp20bz11.pdf; ComponentLink1Description: http://www.vishay.com/docs/34261/lp20bz11.pdf; Supplier Part Number 1: 541-1218-1-ND; .Checked SCH: MM; .Creator: MM
footprint IHLP_204MILX216MIL (Creator MM)
pins: 1, 2

## ISL8024AIRTAJZ-T7A
designator U?
IC REG BUCK SYNC ADJ 4A 16TQFN; Manufacturer: Intersil; Output Type: Adjustable; Number of Outputs: 1; Voltage - Output: 0.6 V ~ 5.5 V; Voltage - Input: 2.7 V ~ 5.5 V; Frequency - Switching: 490kHz ~ 4.2MHz; Synchronous Rectifier: Yes; .Creator: MM; Supplier 1: Digi-Key; Manufacturer Part Number: ISL8024AIRTAJZ-T7A; RoHS: RoHS Compliant; Category: Integrated Circuits (ICs); Stock 1: 440; Pricing 1: 1=4.61, 25=3.63, 100=3.08 (USD); Packaging: Cut Tape (CT); Type: Step-Down (Buck); Current - Output: 4A; Operating Temperature: -40°C ~ 85°C; Mounting Type: Surface Mount; Package / Case: 16-WFQFN Exposed Pad; Supplier Device Package: 16-TQFN (3x3); ComponentLink1URL: http://www.intersil.com/content/dam/Intersil/documents/fn78/fn7812.pdf; ComponentLink1Description: http://www.intersil.com/content/dam/Intersil/documents/fn78/fn7812.pdf; Supplier Part Number 1: ISL8024AIRTAJZ-T7ACT-ND; .Checked PCB: MM; .Checked SCH: MM
footprint 16-TQFN_3mmx3mm_V1.1 (Shortend length of pads.)
pins: 1 VIN_1, 2 VDD, 3 PG, 4 SYNC, 5 EN, 6 FS, 7 SS, 8 COMP, 9 FB, 10 SGND, 11 PGND_1, 12 PGND_2, 13 PHASE_1, 14 PHASE_2, 15 PHASE_3, 16 VIN_2, 17 EPAD

## KSZ9031RNXIA
designator U?
IC TXRX ETHERNET 48-QFN; Manufacturer: Micrel Inc; Number of Drivers/Receivers: 4/4; Duplex: Full; Voltage - Supply: 1.8V, 2.5V, 3.3V; .Creator: MM; Supplier 1: Digi-Key; Manufacturer Part Number: KSZ9031RNXIA; RoHS: RoHS Compliant; Category: Integrated Circuits (ICs); Stock 1: 1755; Pricing 1: 1=6.69, 10=5.975, 50=5.3776, 100=4.8995, 250=4.42152, 500=3.9674, 1000=3.346, 2500=3.1787, 5000=3.04725 (USD); Packaging: Tray; Type: Transceiver; Protocol: Ethernet; Receiver Hysteresis: -; Data Rate: -; Operating Temperature: -40°C ~ 85°C; Mounting Type: Surface Mount; Package / Case: 48-VFQFN Exposed Pad; Supplier Device Package: 48-QFN (7x7); ComponentLink1URL: http://www.micrel.com/_PDF/Ethernet/datasheets/KSZ9031RNX.pdf; ComponentLink1Description: http://www.micrel.com/_PDF/Ethernet/datasheets/KSZ9031RNX.pdf; Supplier Part Number 1: 576-4346-ND; .Checked PCB: MM; .Checked SCH: MM
footprint QFN48_SMALL_EP_7MMX7MM (Creator MM)
pins: 1 AVDDH_1, 2 TXRXP_A, 3 TXRXM_A, 4 AVDDL_1, 5 TXRXP_B, 6 TXRXM_B, 7 TXRXP_C, 8 TXRXM_C, 9 AVDDL_2, 10 TXRXP_D, 11 TXRXM_D, 12 AVDDH_2, 13 NC_1, 14 DVDDL_1, 15 LED2 / PHYAD1, 16 DVDDH_1, 17 LED1 / PME_N1 / PHYAD0, 18 DVDDL_2, 19 TXD0, 20 TXD1, 21 TXD2, 22 TXD3, 23 DVDDL_3, 24 GTX_CLK, 25 TX_EN, 26 DVDDL_4, 27 RXD3 / MODE3, 28 RXD2 / MODE2, 29 VSS, 30 DVDDL_5, 31 RXD1 / MODE1, 32 RXD0 / MODE0, 33 RX_DV / CLK125_EN, 34 DVDDH_2, 35 RX_CLK / PHYAD2, 36 MDC, 37 MDIO, 38 INT_N / PME_N2, 39 DVDDL_6, 40 DVDDH_3, 41 CLK125_NDO / LED_MODE, 42 RESET_N, 43 LDO_O, 44 AVDDL_PLL, 45 XO, 46 XI, 47 NC_2, 48 ISET, 49 P_GND

## L829-1J1T-43
designator J?
CONN MAGJACK 1PORT SHLD 1000BT; Manufacturer: Bel Fuse Inc; Connector Type: RJ45; Number of Ports: 1; Speed: 10/100/1000 Base-T; LED Color: Green, Orange - Yellow; Number of Cores per Jack: 8; Shielding: Shielded; Tab Direction: Up; .Checked PCB: RF; Supplier 1: Digi-Key; Manufacturer Part Number: L829-1J1T-43; RoHS: RoHS Compliant; Category: Connectors, Interconnects; Stock 1: 7172; Pricing 1: 1=4.67, 10=3.863, 100=2.8974, 250=2.672, 500=2.41446, 1000=2.14082, 2500=2.05229, 5000=2.01205 (GBP); Number of Rows: 1; Mounting Type: Panel Mount; Through Hole, Right Angle; Height Above Board: 0.445" (11.30mm); Features: AutoMDIX, Board Guide; Packaging: Tray; ComponentLink1URL: http://www.belfuse.com/Data/Datasheets/L829-1J1T-43.pdf; ComponentLink1Description: http://www.belfuse.com/Data/Datasheets/L829-1J1T-43.pdf; Supplier Part Number 1: 380-1110-ND; .Checked SCH: RF
footprint L829-1J1T-43
pins: 1 TRCT3, 2 TRD3-, 3 TRD3+, 4 TRD2+, 5 TRD2-, 6 TRCT2, 7 TRCT4, 8 TRD4+, 9 TRD4-, 10 TRD1-, 11 TRD1+, 12 TRCT1, 13 Y_CATODE, 14 Y_ANODE, 15 O_CATODE, 16 COM_ANODE, 17 G_CATODE, 18 SHIELD1, 19 SHIELD2
text: 1:TRP1+; 2:TRP1-; 3:TRP2+; 6:TRP2-; 4:TRP3+; 5:TRP3-; 7:TRP4+; 8:TRP4-

## LG L29K-G2J1-24-Z
designator D?, comment Green
LED SMARTLED GREEN 570NM 0603; Manufacturer: OSRAM Opto Semiconductors Inc; Manufacturer Part Number: LG L29K-G2J1-24-Z; .Checked PCB: used; Current - Test: 2mA; Voltage - Forward (Vf) Typ: 1.7V; Luminous Flux @ Current - Test: 12 mlm; Millicandela Rating: 3.92mcd; Wavelength - Peak: 572nm; Lens Type: Diffused; Lens Style/Size: Rectangle with Flat Top, 1.3mm x 0.8mm; Viewing Angle: 160°; Regulator Topology: Positive Fixed; Voltage - Output: 2.5V; Voltage - Input: 2.6 V ~ 6 V; Voltage - Dropout (Typical): 0.16V @ 500mA; Number of Regulators: 1; Current - Output: 500mA; Current - Limit (Min): 600mA; .Checked SCH: used; Category: Optoelectronics; Supplier Part Number: 475-2709-1-ND; Family: LEDs - <75mA, Discre; Price 1k [$]: 0.08744; Value: Green; Color: Green; Package / Case: 0603 (1608 Metric); Supplier: Digikey; Supplier 1: Digi-Key; Supplier Part Number 1: 475-2709-1-ND; RoHS: RoHS Compliant; Stock 1: 30318; Pricing 1: 1=0.16, 10=0.137, 100=0.1093, 250=0.09564, 500=0.08744 (USD); Wavelength - Dominant: 570nm; Size / Dimension: 1.70mm L x 0.80mm W; Height: 0.65mm; Mounting Type: Surface Mount; Packaging: Cut Tape (CT); ComponentLink1URL: http://catalog.osram-os.com/catalogue/catalogue.do;jsessionid=32CB61882C089EDD4B6D0A54E7E1F117?act=downloadFile&favOid=020000020000138e000100b6; ComponentLink1Description: http://catalog.osram-os.com/catalogue/catalogue.do;jsessionid=32CB61882C089EDD4B6D0A54E7E1F117?act=downloadFile&favOid=020000020000138e000100b6; Operating Temperature: -40°C ~ 125°C; Supplier Device Package: 6-TMLF® (1.6x1.6); ComponentLink2URL: http://www.micrel.com/_PDF/mic5353.pdf; ComponentLink2Description: http://www.micrel.com/_PDF/mic5353.pdf
footprint LED_0603
pins: 1 cathode, 2 ANODE

## LO L29K-H2K1-24-Z
designator D?, comment Orange
LED SMARTLED ORANGE 606NM 0603; Manufacturer: OSRAM Opto Semiconductors Inc; Manufacturer Part Number: LO L29K-H2K1-24-Z; Millicandela Rating: 6.3mcd; Voltage - Forward (Vf) Typ: 1.8V; Current - Test: 2mA; Wavelength - Peak: 610nm; Viewing Angle: 160°; Lens Type: Diffused; Lens Style/Size: Rectangle with Flat Top, 1.3mm x 0.8mm; Luminous Flux @ Current - Test: 25 mlm; .Checked PCB: used; Supplier 1: Digi-Key; Supplier Part Number 1: 475-2740-1-ND; RoHS: RoHS Compliant; Category: Optoelectronics; Stock 1: 15900; Pricing 1: 1=0.17, 10=0.141, 100=0.1127, 250=0.0986, 500=0.09016 (USD); Color: Orange; Wavelength - Dominant: 606nm; Package / Case: 0603 (1608 Metric); Size / Dimension: 1.70mm L x 0.80mm W; Height: 0.65mm; Mounting Type: Surface Mount; Packaging: Cut Tape (CT); ComponentLink1URL: http://catalog.osram-os.com/catalogue/catalogue.do;jsessionid=302CF83AF637AE24E40AEB0ADA267EDD?act=downloadFile&favOid=020000010003f9de000100b6; ComponentLink1Description: http://catalog.osram-os.com/catalogue/catalogue.do;jsessionid=302CF83AF637AE24E40AEB0ADA267EDD?act=downloadFile&favOid=020000010003f9de000100b6; .Checked SCH: used
footprint LED_0603
pins: 1 cathode, 2 ANODE

## LPC1345FHN33,551
designator U?, comment LPC1345FHN33,551-ND
IC MCU ARM 32KB FLASH 32HVQFN; Manufacturer: NXP Semiconductors; Core Processor: ARM® Cortex®-M3; Core Size: 32-Bit; Speed: 72MHz; Connectivity: I²C, Microwire, SPI, SSI, SSP, UART/USART, USB; Peripherals: Brown-out Detect/Reset, POR, WDT; Number of I/O: 26; Program Memory Size: 32KB (32K x 8); EEPROM Size: 2K x 8; RAM Size: 10K x 8; Voltage - Supply (Vcc/Vdd): 2 V ~ 3.6 V; Data Converters: A/D 8x12b; Oscillator Type: Internal; .Checked PCB: MM; Supplier 1: Digi-Key; Manufacturer Part Number: LPC1345FHN33,551; RoHS: RoHS Compliant; Category: Integrated Circuits (ICs); Stock 1: 0; Pricing 1: 260=3.2745 (USD); Packaging: Tray; Program Memory Type: FLASH; Operating Temperature: -40°C ~ 85°C; Package / Case: 32-VQFN Exposed Pad; Supplier Device Package: 32-HVQFN (7x7); ComponentLink1URL: http://www.nxp.com/documents/data_sheet/LPC1315_16_17_45_46_47.pdf; ComponentLink1Description: http://www.nxp.com/documents/data_sheet/LPC1315_16_17_45_46_47.pdf; Supplier Part Number 1: LPC1345FHN33,551-ND; .Checked SCH: MM; .Creator: MM
footprint HVQFN33_7x7mm (Creator MM)
pins: 1 PIO1_19 / ~{DTR} / SSEL1, 2 ~{RESET} / PIO0_0, 3 PIO0_1 / CLKOUT / CT32B0_MAT2 / USB_FTOGGLE, 4 XTALIN, 5 XTALOUT, 6 VDD_1, 7 PIO0_20 / CT16B1_CAP0, 8 PIO0_2 / SSEL0 / CT16B0_CAP0, 9 PIO0_3 / USB_VBUS, 10 PIO0_4 / SCL, 11 PIO0_5 / SDA, 12 PIO0_21 / CT16B1_MAT0 / MOSI1, 13 USB_DM, 14 USB_DP, 15 PIO0_6 / ~{USB_CONNECT} / SCK0, 16 PIO0_7 / ~{CTS}, 17 PIO0_8 / MISO0 / CT16B0_MAT0, 18 PIO0_9 / MOSI0 / CT16B0_MAT1 / SWO, 19 SWCLK / PIO0_10 / SCK0 / CT16B0_MAT2, 20 PIO0_22 / AD6 / CT16B1_MAT1 / MISO1, 21 TDI / PIO0_11 / AD0 / CT32B0_MAT3, 22 TMS / PIO0_12 / AD1 / CT32B1_CAP0, 23 TDO / PIO0_13 / AD2 / CT32B1_MAT0, 24 ~{TRST} / PIO0_14 / AD3 / CT32B1_MAT1, 25 SWDIO / PIO0_15 / AD4 / CT32B1_MAT2, 26 PIO0_16 / AD5 / CT32B1_MAT3 / WAKEUP, 27 PIO0_23 / AD7, 28 PIO1_15 / ~{DCD} / CT16B0_MAT2 / SCK1, 29 VDD_2, 30 PIO0_17 / ~{RTS} / CT32B0_CAP0 / SCLK, 31 PIO0_18 / RXD / CT32B0_MAT0, 32 PIO0_19 / TXD / CT32B0_MAT1, 33 VSS

## LS L29K-H1J2-1-Z
designator D?, comment Red
LED SMARTLED RED 630NM 0603 SMD; Manufacturer: OSRAM Opto Semiconductors Inc; Manufacturer Part Number: LS L29K-H1J2-1-Z; Millicandela Rating: 4.95mcd; Voltage - Forward (Vf) Typ: 1.8V; Current - Test: 2mA; Wavelength - Peak: 643nm; Viewing Angle: 160°; Lens Type: Diffused; Lens Style/Size: Rectangle with Flat Top, 1.3mm x 0.8mm; Luminous Flux @ Current - Test: 20 mlm; .Checked PCB: used; Supplier 1: Digi-Key; Supplier Part Number 1: 475-1195-1-ND; RoHS: RoHS Compliant; Category: Optoelectronics; Stock 1: 71670; Pricing 1: 1=0.16, 10=0.137, 100=0.1093, 250=0.09564, 500=0.08744 (USD); Color: Red; Wavelength - Dominant: 630nm; Package / Case: 0603 (1608 Metric); Size / Dimension: 1.70mm L x 0.80mm W; Height: 0.65mm; Mounting Type: Surface Mount; Packaging: Cut Tape (CT); ComponentLink1URL: http://catalog.osram-os.com/catalogue/catalogue.do;jsessionid=DB7CFDBAC5AF1E216E45F622E867085A?act=downloadFile&favOid=020000010003f9de000100b6; ComponentLink1Description: http://catalog.osram-os.com/catalogue/catalogue.do;jsessionid=DB7CFDBAC5AF1E216E45F622E867085A?act=downloadFile&favOid=020000010003f9de000100b6; .Checked SCH: used
footprint LED_0603
pins: 1 cathode, 2 ANODE

## M74VHC1GT126DF1G
designator U?
IC BUFF CMOS LVL/SFTR N-I SOT353; Manufacturer: ON Semiconductor; Logic Type: Buffer/Line Driver, Non-Inverting; Number of Elements: 1; Current - Output High, Low: 8mA, 8mA; Voltage - Supply: 3 V ~ 5.5 V; .Checked PCB: MM; Supplier 1: Digi-Key; Manufacturer Part Number: M74VHC1GT126DF1G; RoHS: RoHS Compliant; Category: Integrated Circuits (ICs); Stock 1: 6821; Pricing 1: 1=0.36, 10=0.326, 25=0.2344, 100=0.1824, 250=0.1146, 500=0.09766, 1000=0.06654 (USD); Packaging: Cut Tape (CT); Number of Bits per Element: 1; Operating Temperature: -55°C ~ 125°C; Mounting Type: Surface Mount; Package / Case: 5-TSSOP, SC-70-5, SOT-353; Supplier Device Package: SC-70; ComponentLink1URL: http://www.onsemi.com/pub_link/Collateral/MC74VHC1GT126-D.PDF; ComponentLink1Description: http://www.onsemi.com/pub_link/Collateral/MC74VHC1GT126-D.PDF; Supplier Part Number 1: M74VHC1GT126DF1GOSCT-ND; .Checked SCH: MM; .Creator: MM
footprint SC70_5
pins: 1 OE#, 2 I, 3 GND (power), 4 O (hiz), 5 VCC (power)

## MBR140SFT1G
designator D?
DIODE SCHOTTKY 40V 1A SOD123L; Manufacturer: ON Semiconductor; Voltage - Forward (Vf) (Max) @ If: 550mV @ 1A; Speed: Fast Recovery =< 500ns, > 200mA (Io); Current - Reverse Leakage @ Vr: 500µA @ 40V; .Creator: MM; Supplier 1: Digi-Key; Manufacturer Part Number: MBR140SFT1G; RoHS: RoHS Compliant; Category: Discrete Semiconductor Products; Stock 1: 9727; Pricing 1: 1=0.47, 10=0.333, 25=0.274, 100=0.2188, 250=0.1594, 500=0.12944, 1000=0.0995 (USD); Packaging: Cut Tape (CT); Diode Type: Schottky; Voltage - DC Reverse (Vr) (Max): 40V; Current - Average Rectified (Io): 1A; Reverse Recovery Time (trr): -; Capacitance @ Vr, F: -; Mounting Type: Surface Mount; Package / Case: SOD-123F; Supplier Device Package: SOD-123L; Operating Temperature - Junction: -55°C ~ 125°C; ComponentLink1URL: http://www.onsemi.com/pub_link/Collateral/MBR140SFT1-D.PDF; ComponentLink1Description: http://www.onsemi.com/pub_link/Collateral/MBR140SFT1-D.PDF; Supplier Part Number 1: MBR140SFT1GOSCT-ND; .Checked PCB: MM; .Checked SCH: MM
footprint SOD-123FL (Wider inside part of pads. Creator MM)
pins: 1 Cathode, 2 Anode

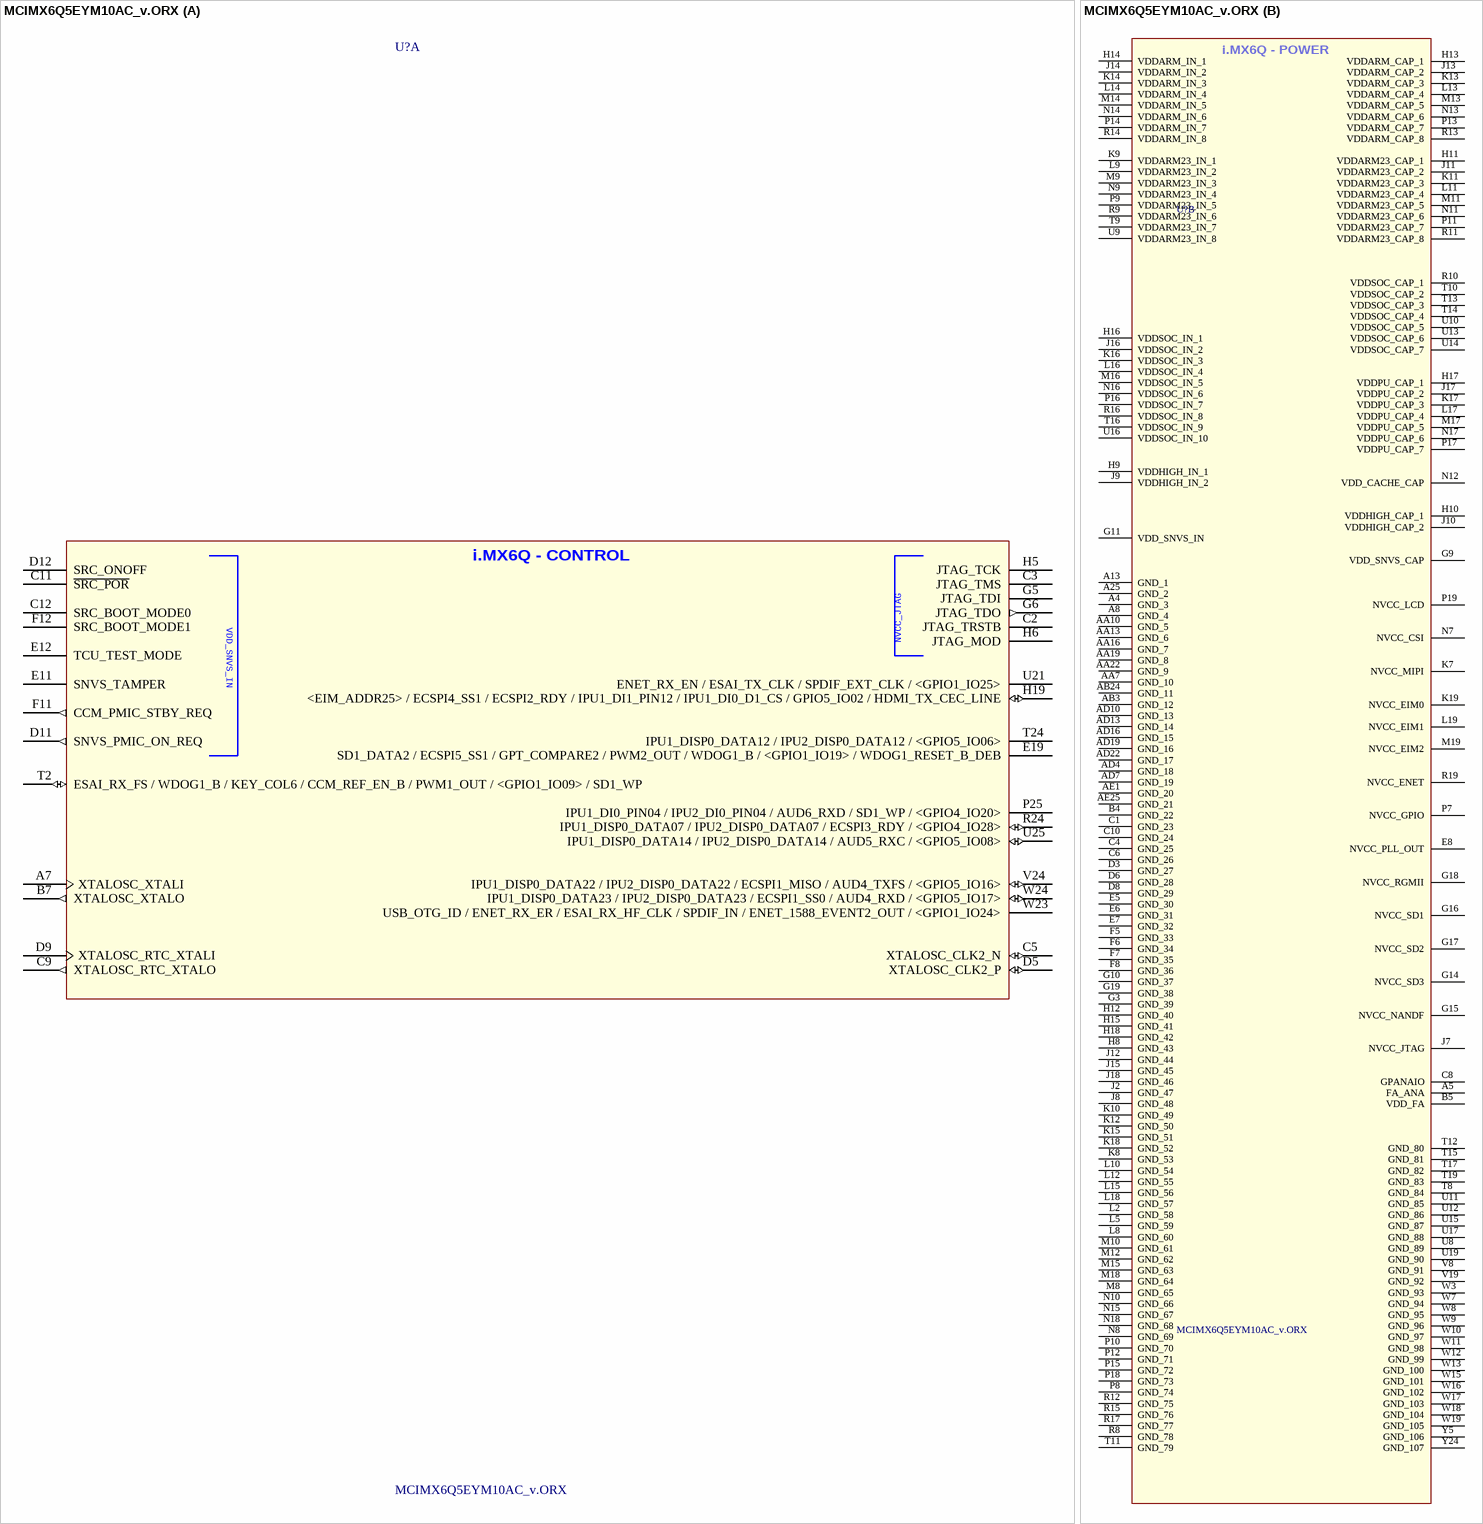
[diagram p3: symbol MCIMX6Q5EYM10AC_v.ORX]

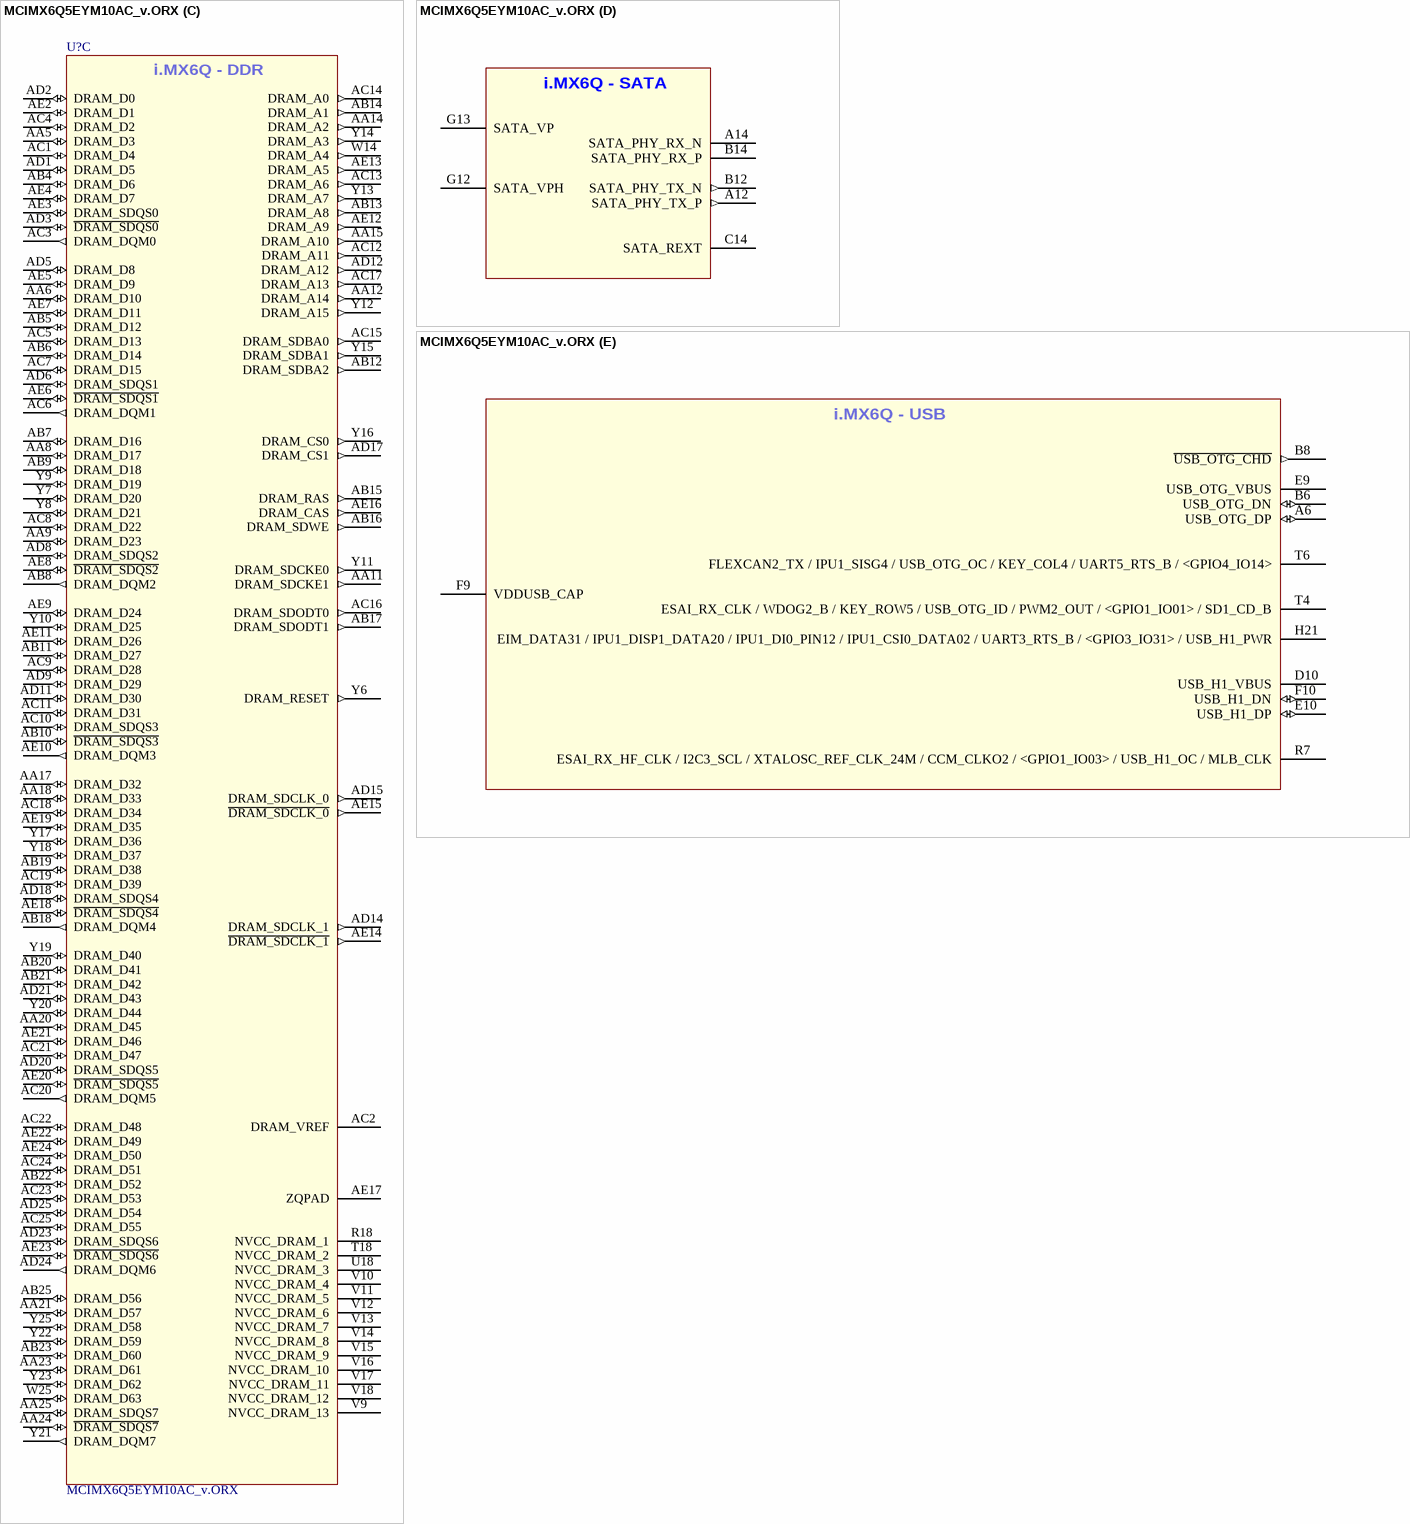
[diagram p4: symbol MCIMX6Q5EYM10AC_v.ORX]

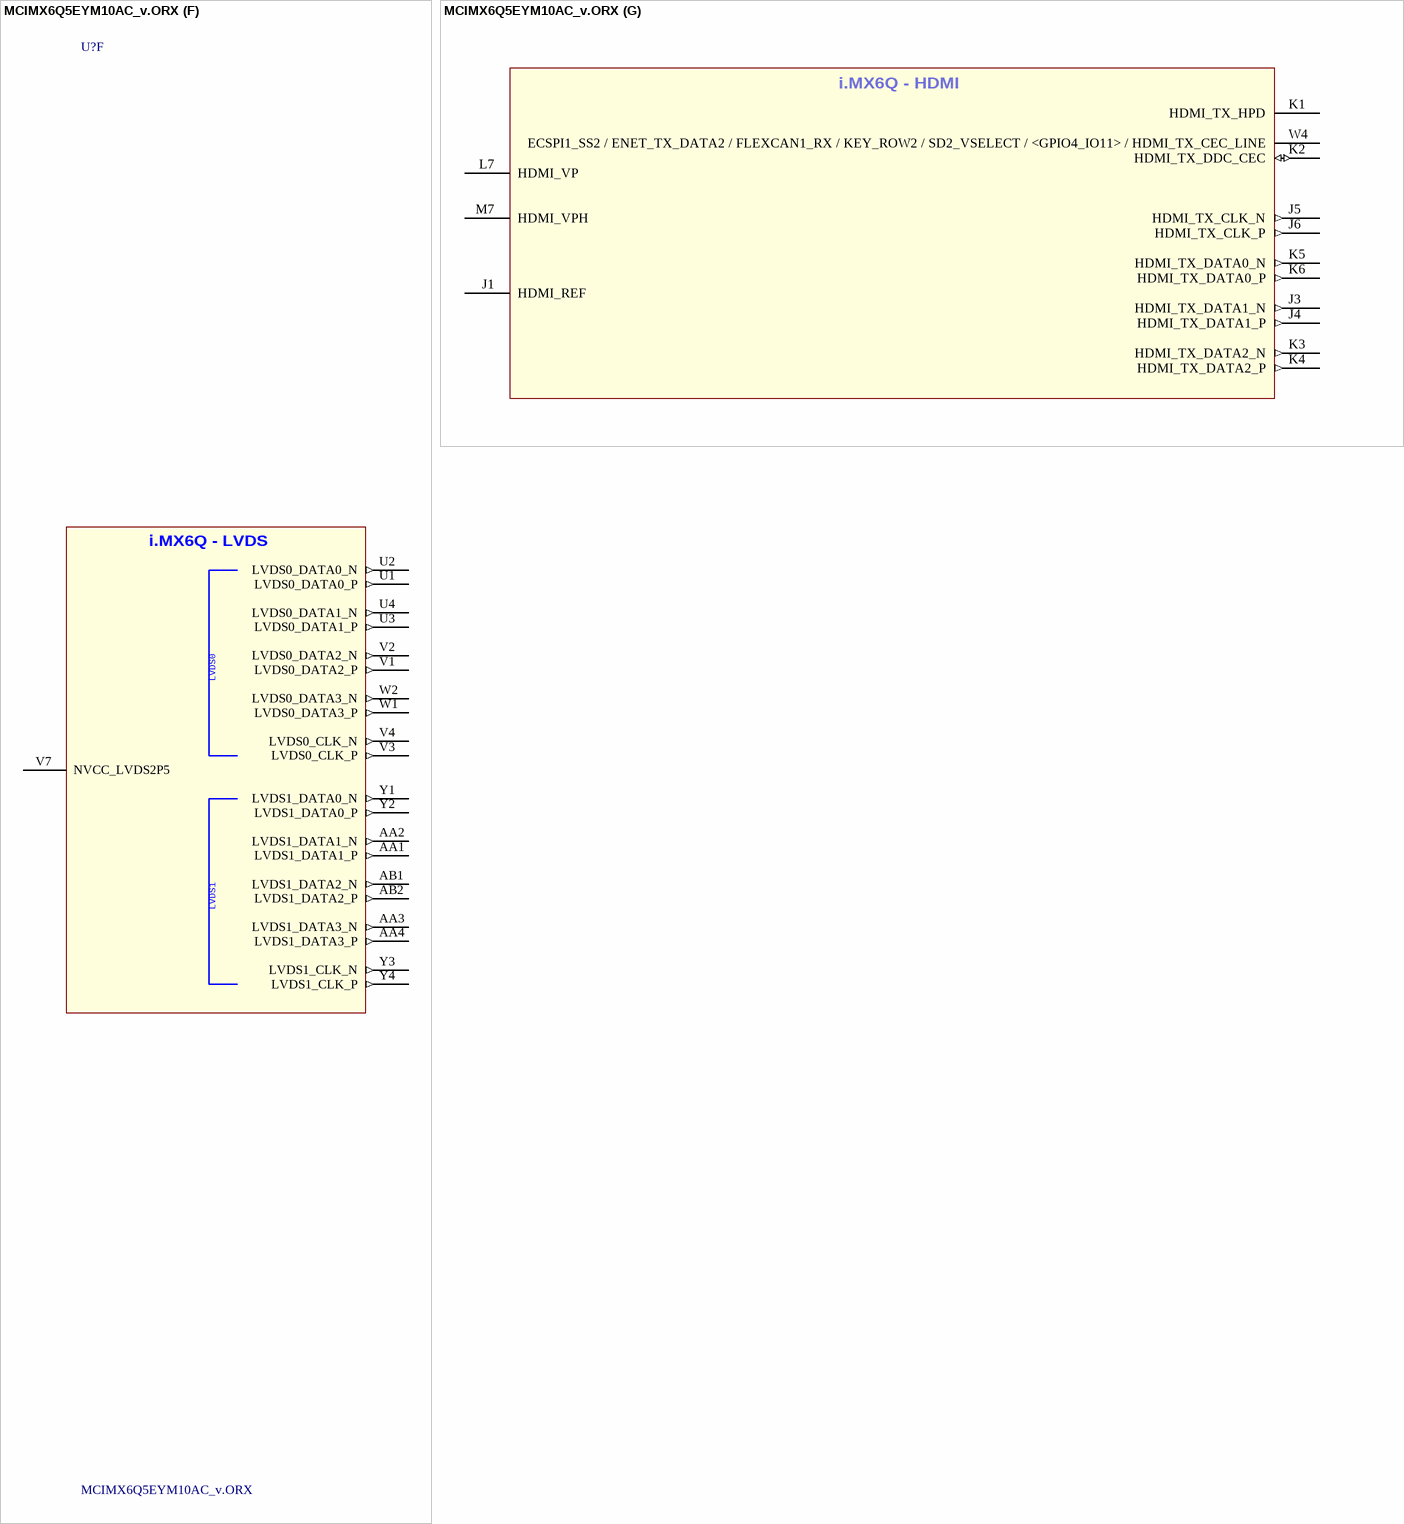
[diagram p5: symbol MCIMX6Q5EYM10AC_v.ORX]

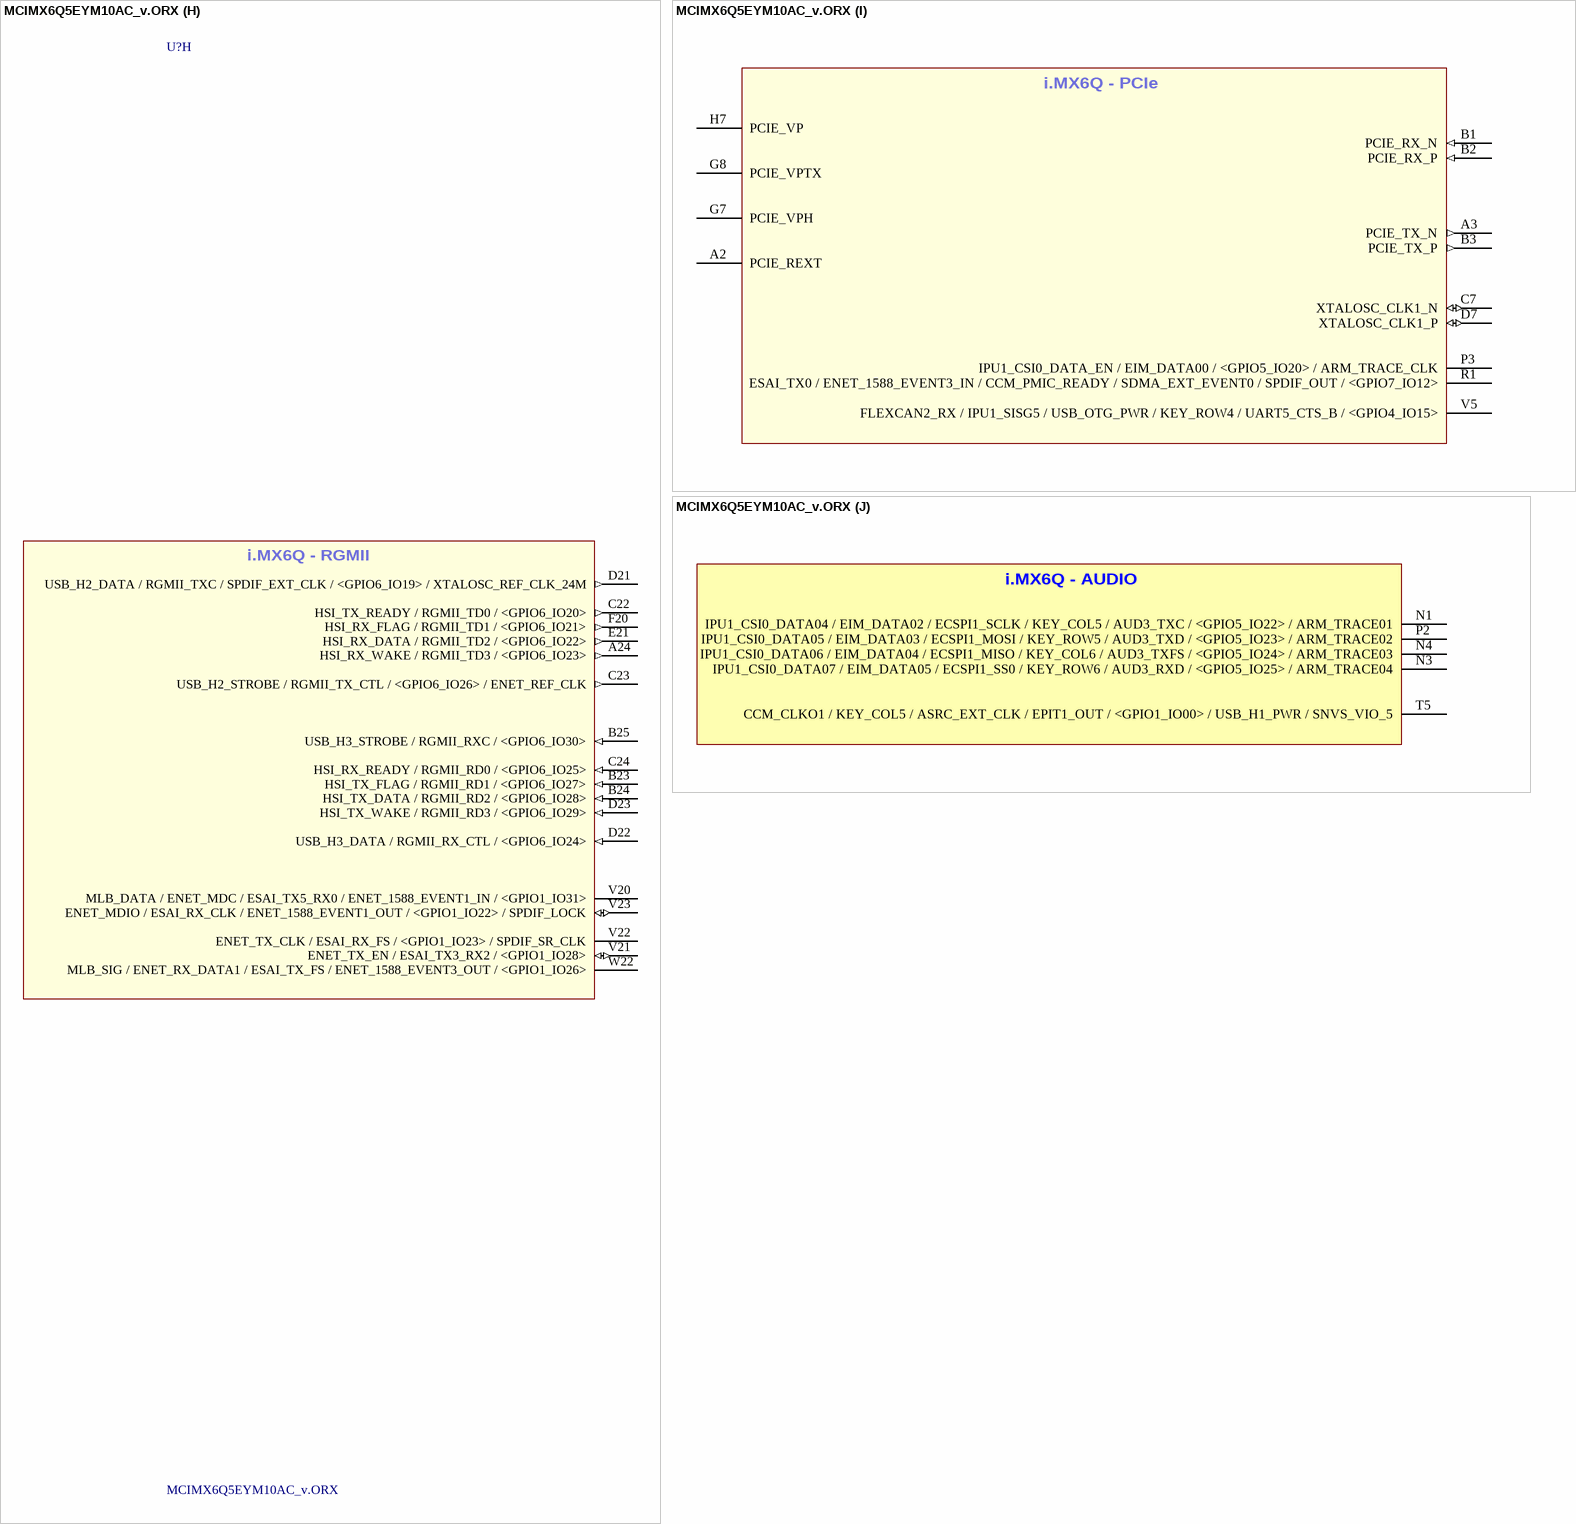
[diagram p6: symbol MCIMX6Q5EYM10AC_v.ORX]

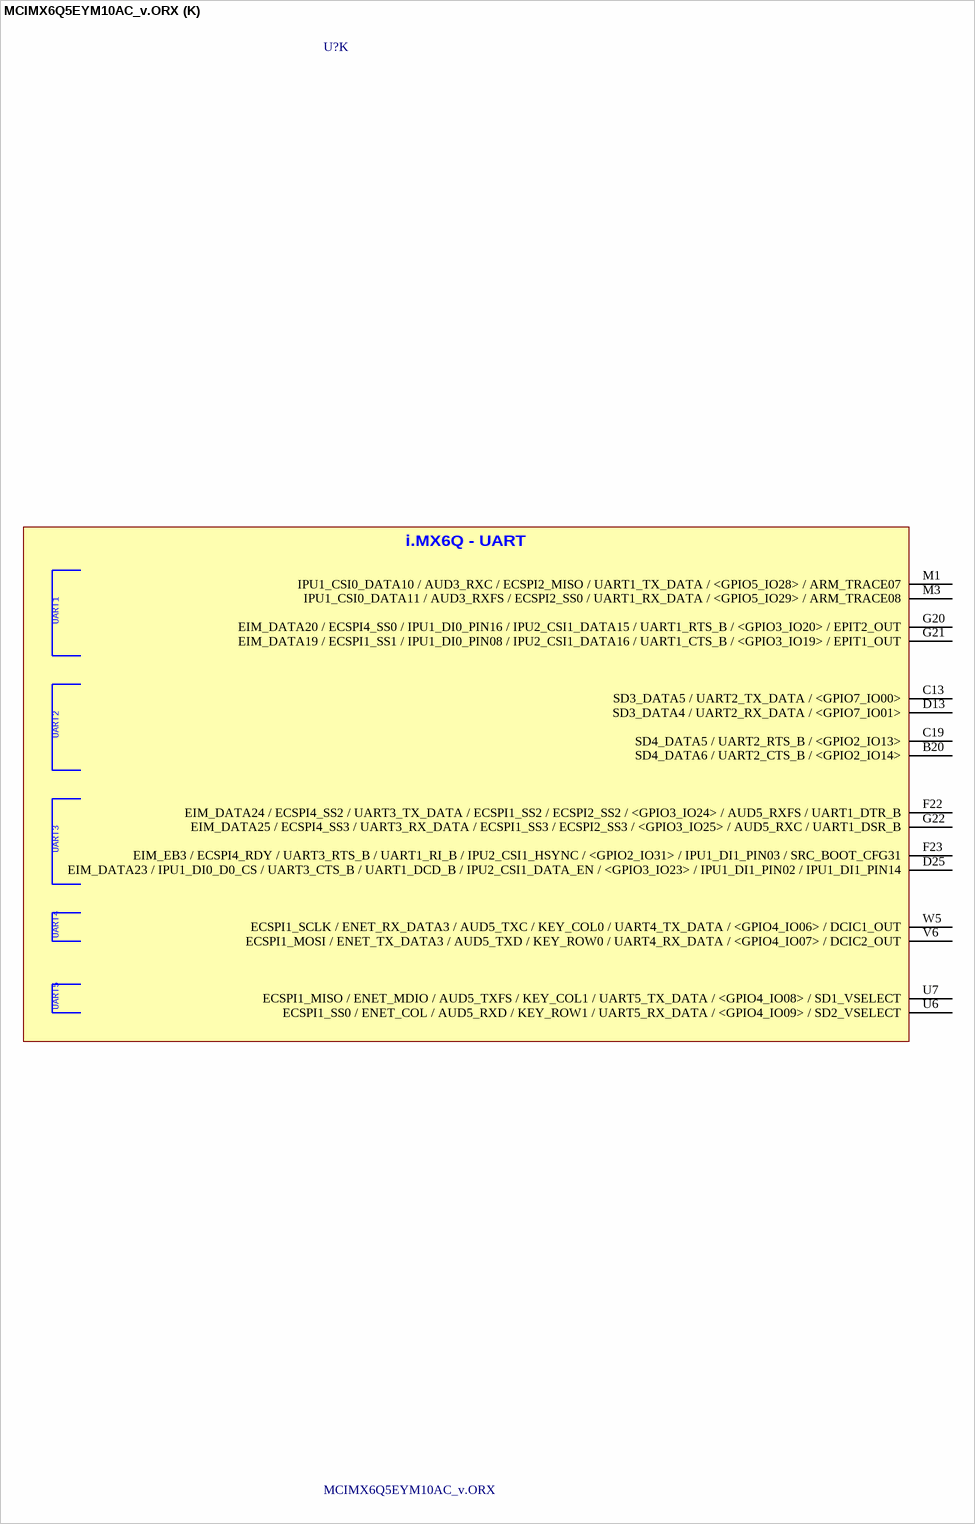
[diagram p7: symbol MCIMX6Q5EYM10AC_v.ORX]

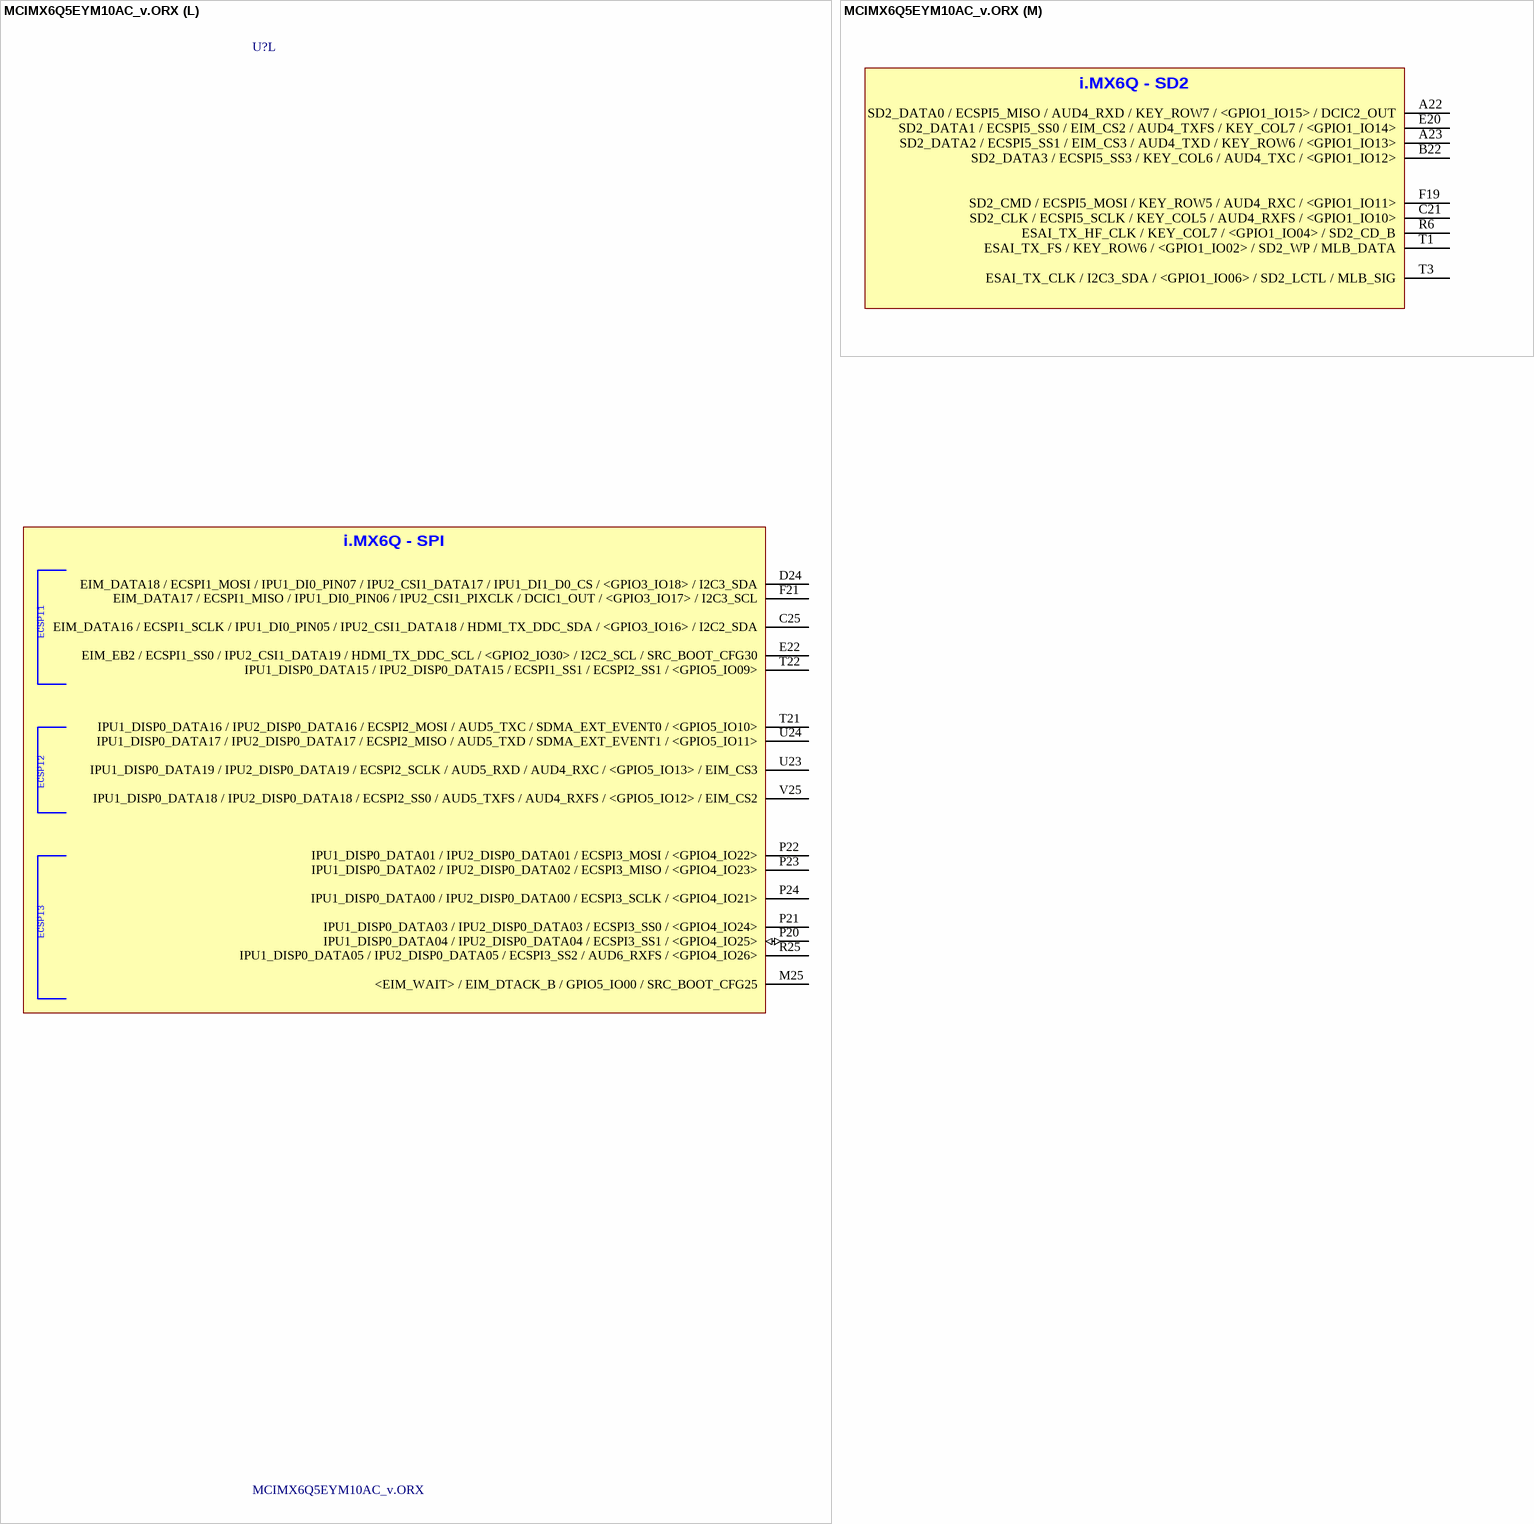
[diagram p8: symbol MCIMX6Q5EYM10AC_v.ORX]

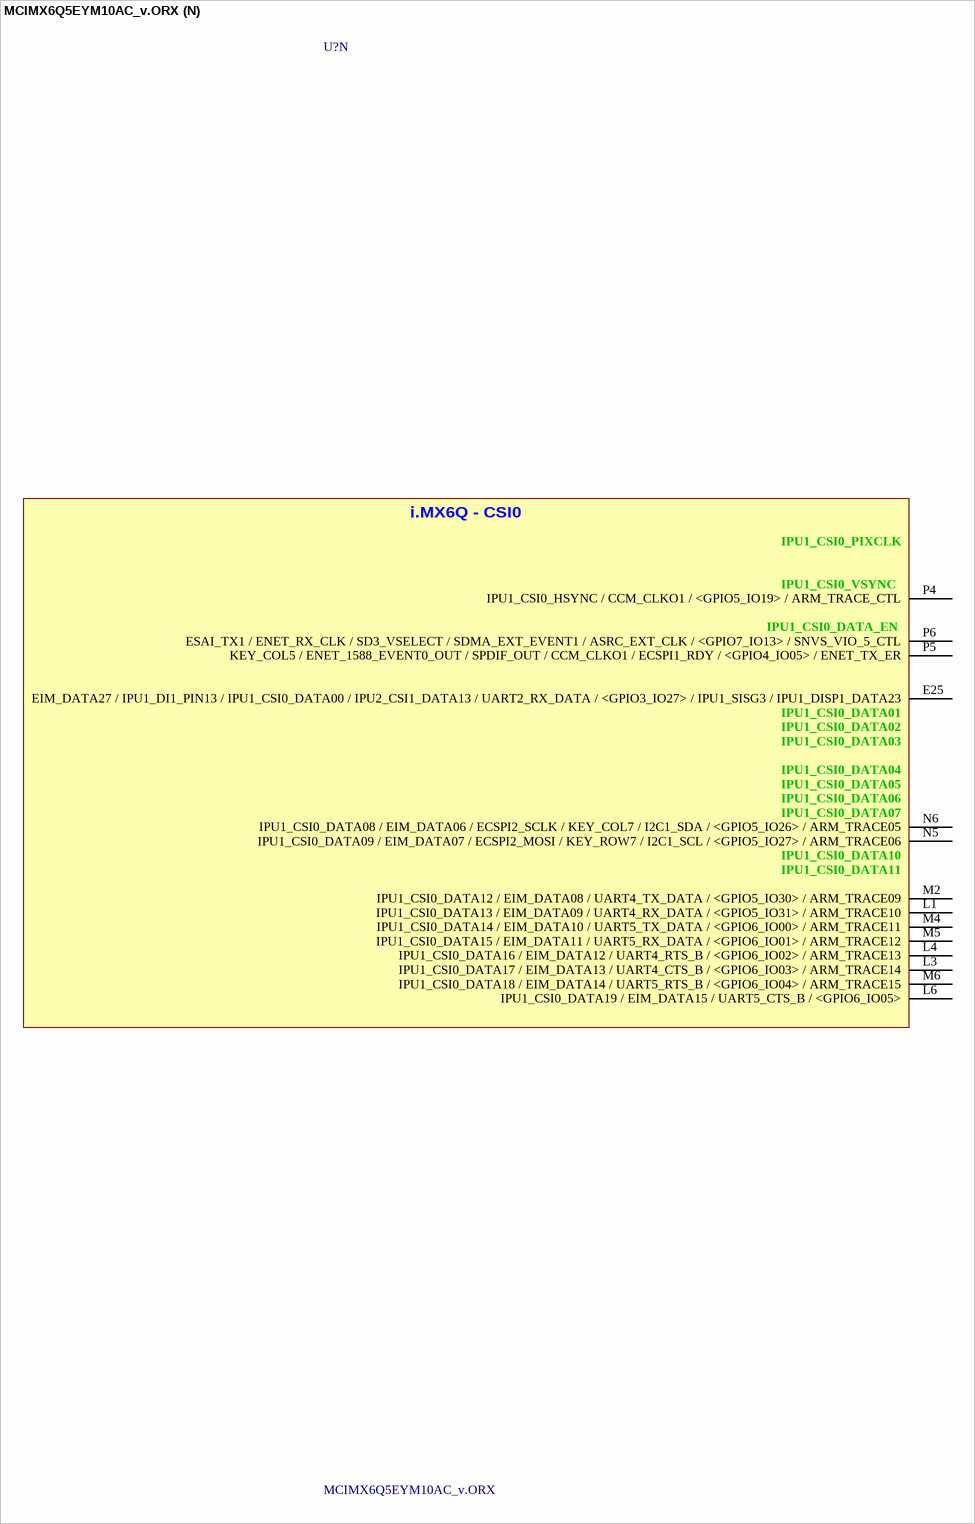
[diagram p9: symbol MCIMX6Q5EYM10AC_v.ORX]

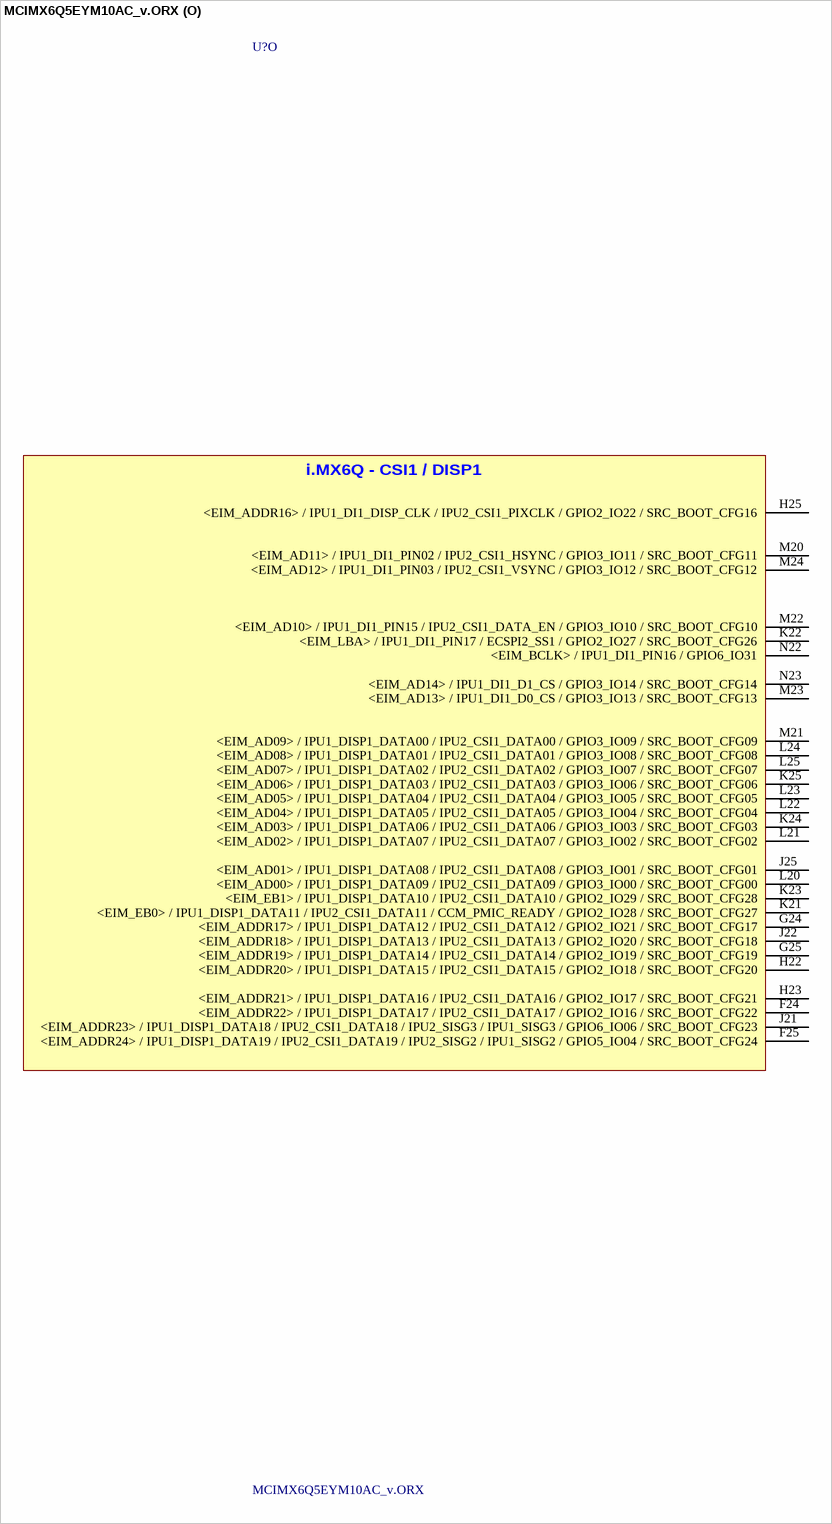
[diagram p10: symbol MCIMX6Q5EYM10AC_v.ORX]

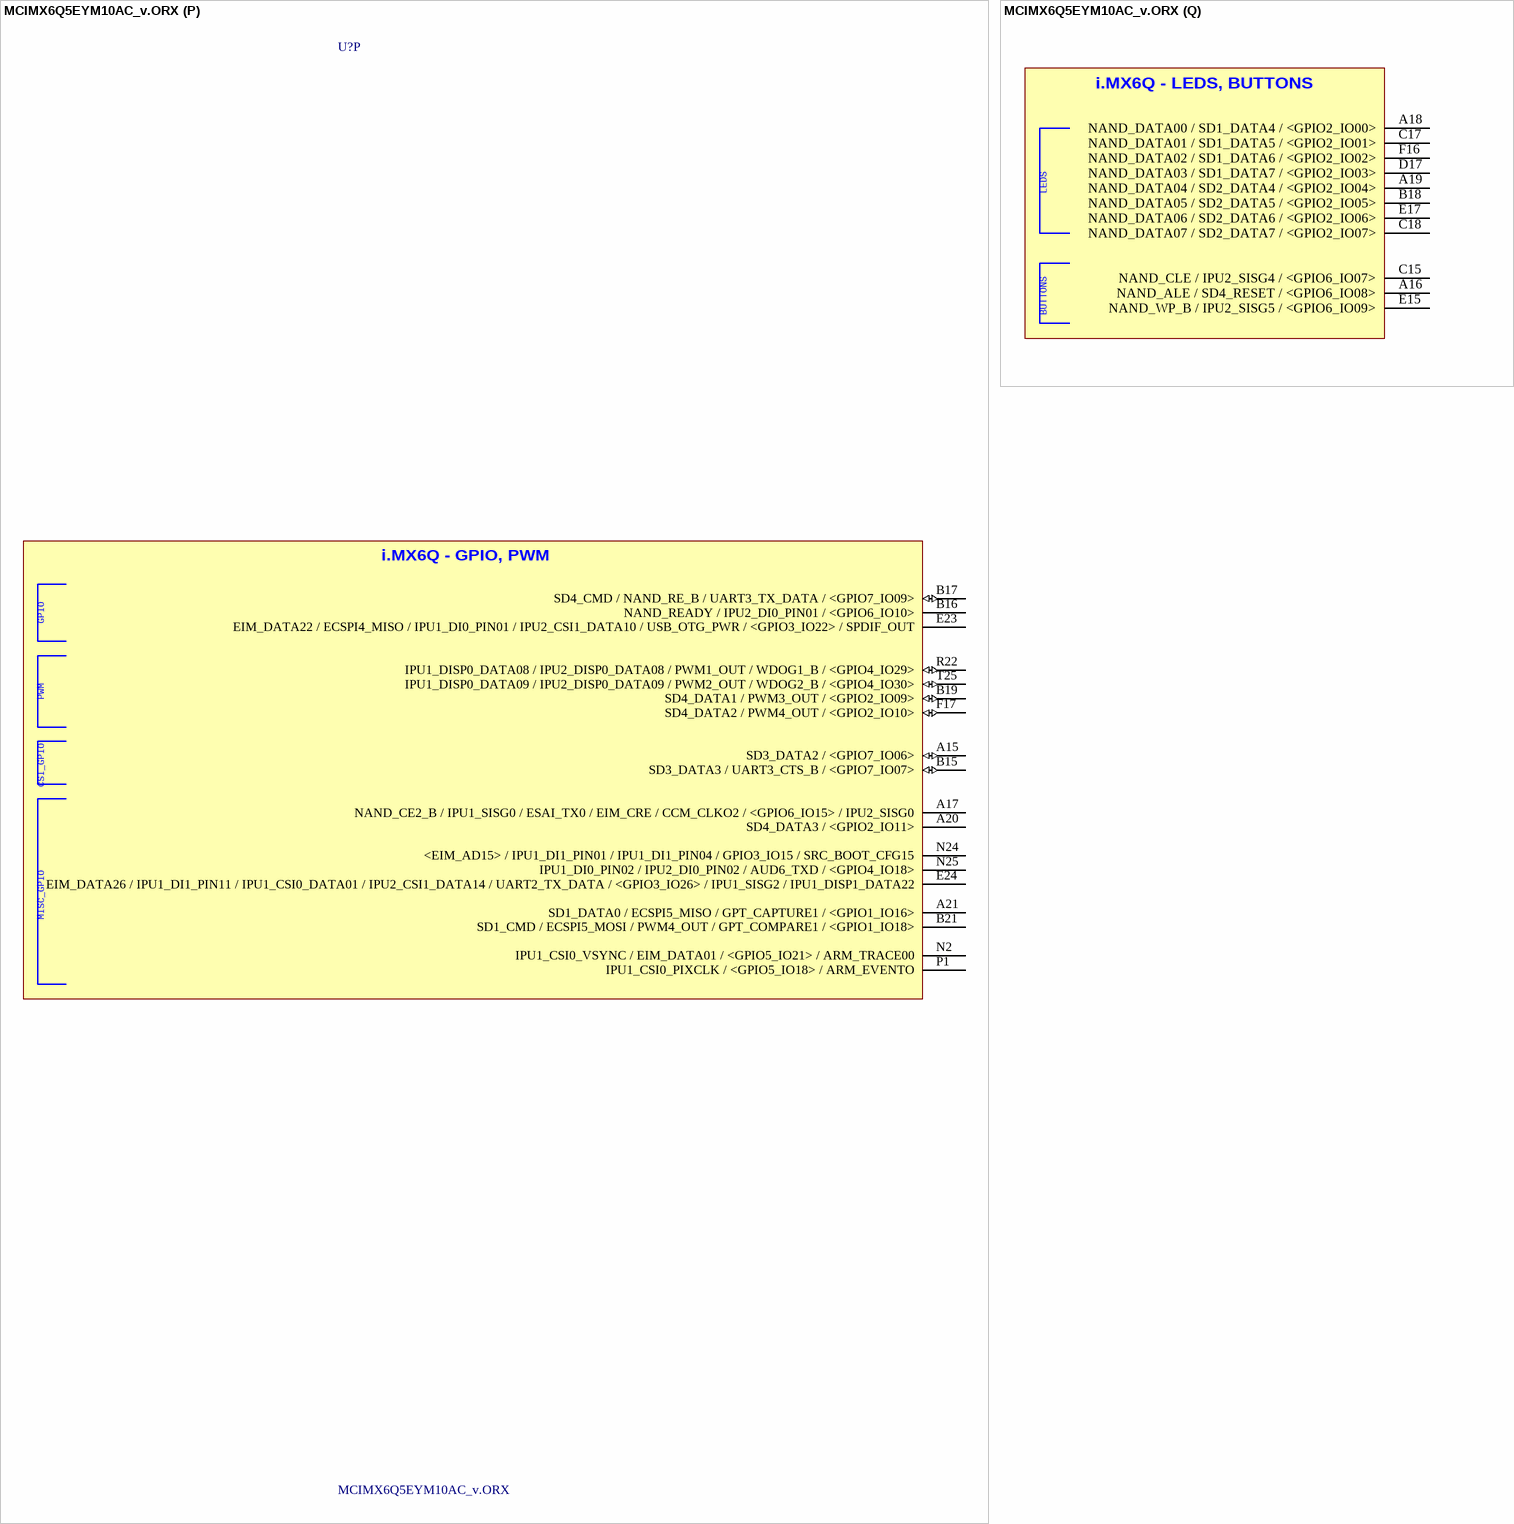
[diagram p11: symbol MCIMX6Q5EYM10AC_v.ORX]

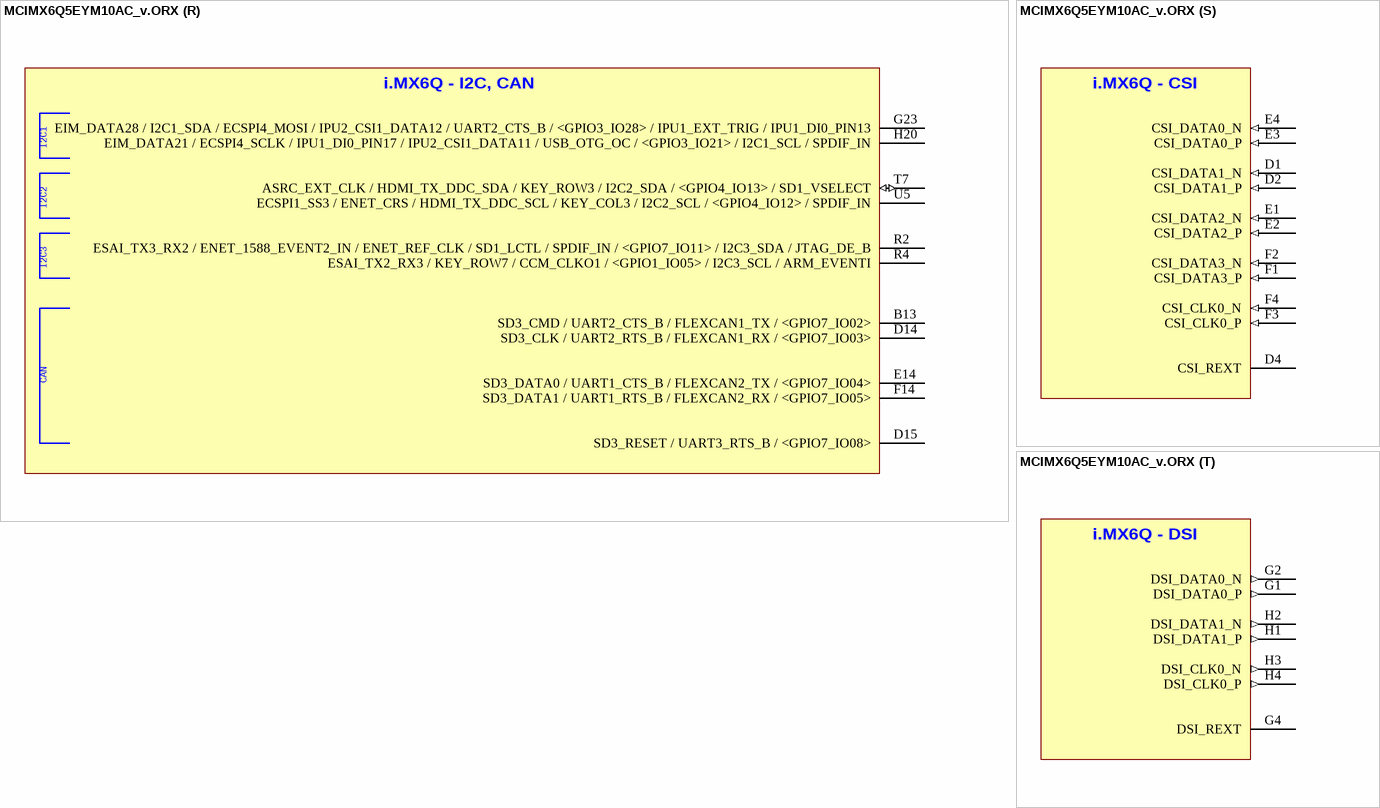
[diagram p12: symbol MCIMX6Q5EYM10AC_v.ORX]

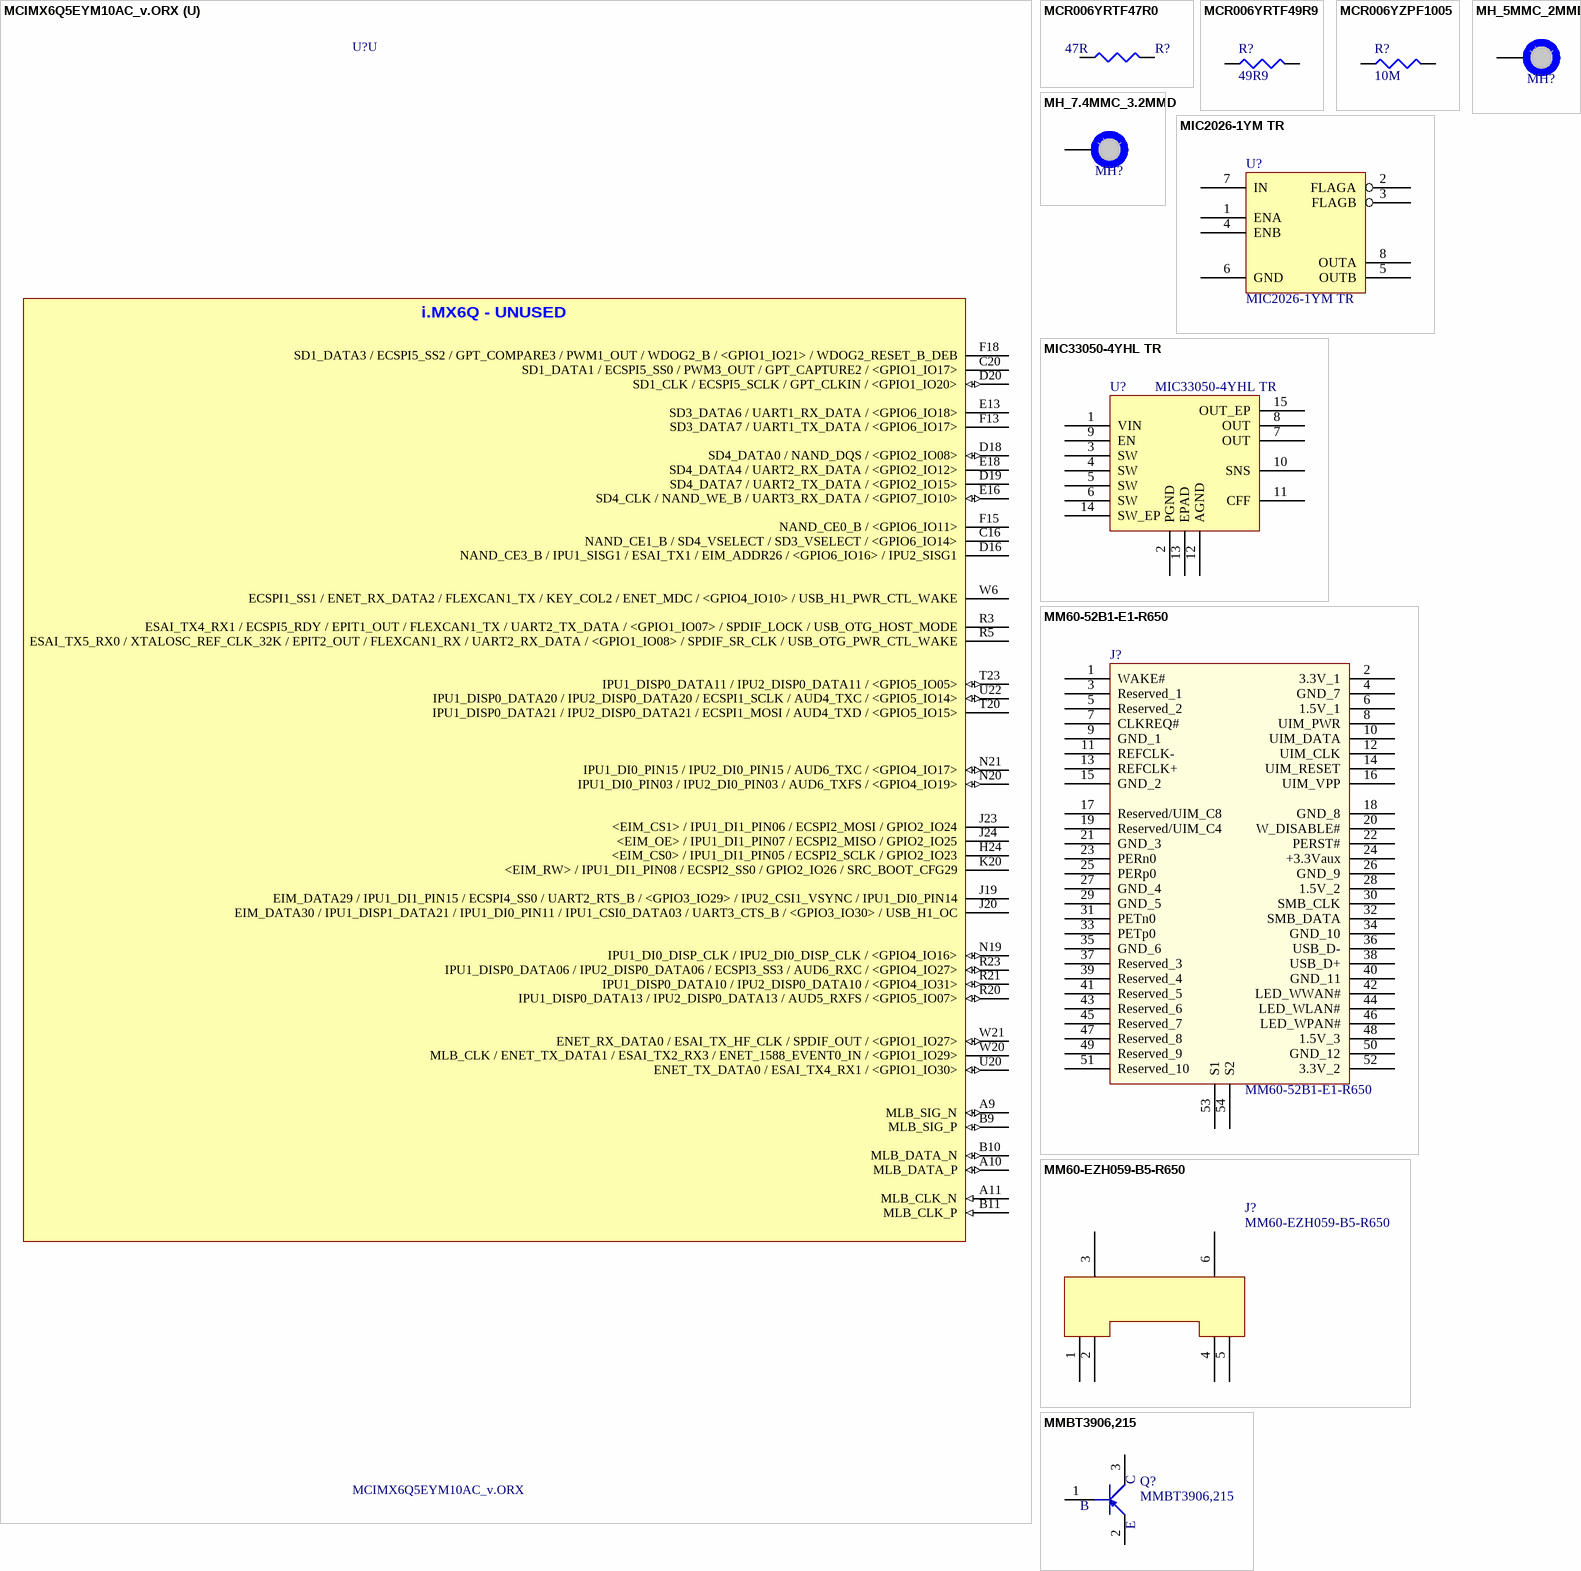
[diagram p13: symbols MCIMX6Q5EYM10AC_v.ORX to MMBT3906,215]